# Altium schematic symbol library TarabusLib_KAP.SchLib: 304 symbols (part 2 of 4)
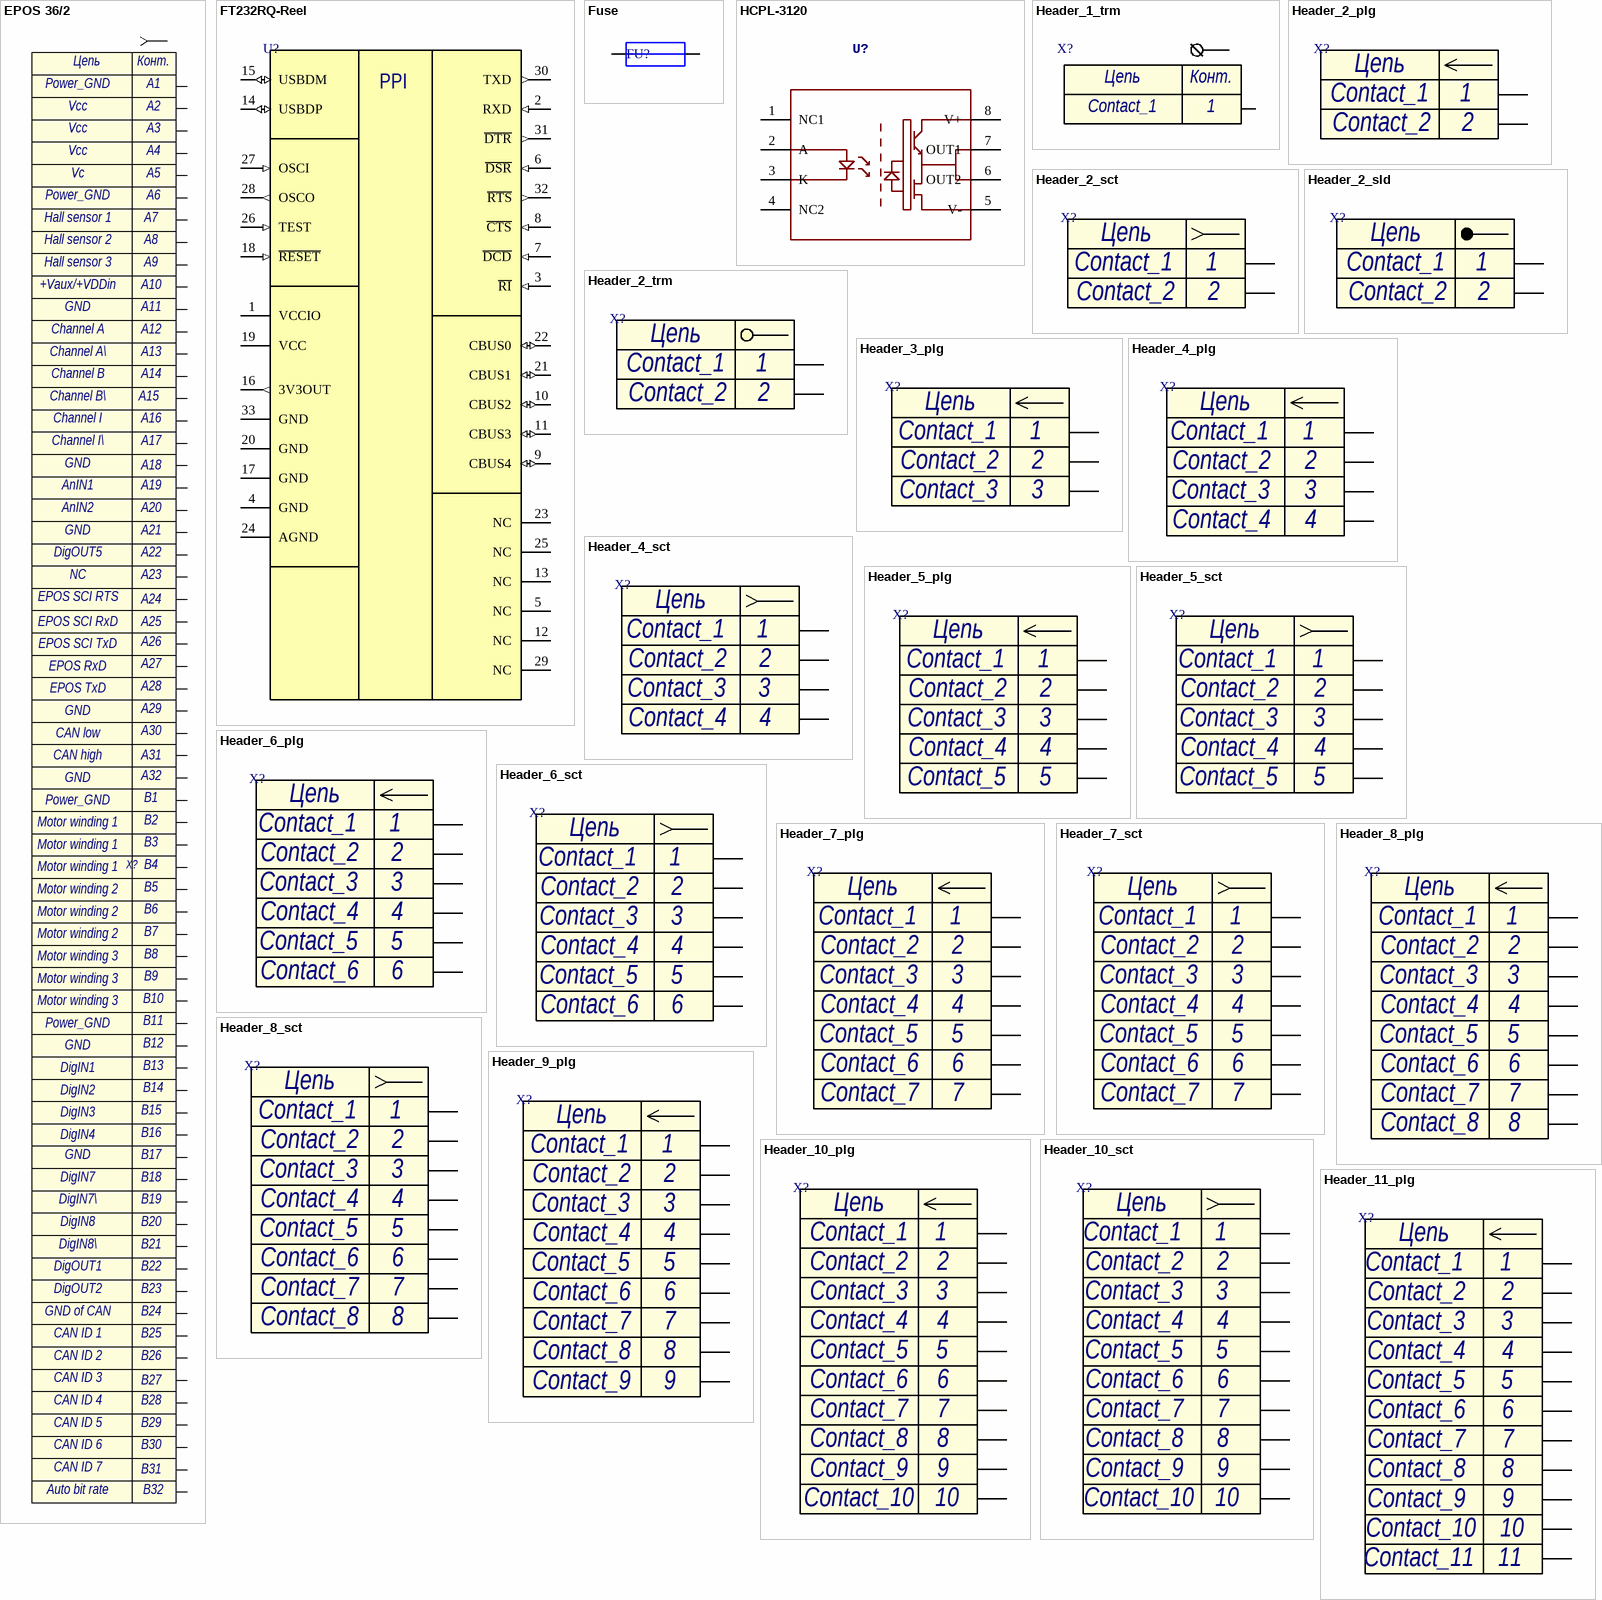
[diagram p40: symbols EPOS 36/2 to Header_11_plg]

## EPOS 36/2
designator X?
PCI 64; Contact_1: Power_GND; Contact_2: Vcc; Contact_36: Motor winding 1; Contact_39: Motor winding 2; Contact_42: Motor winding 3; Contact_49: GND; Contact_50: DigIN7; Contact_51: DigIN7\; Contact_52: DigIN8; Contact_53: DigIN8\; Contact_54: DigOUT1; Contact_55: DigOUT2; Contact_56: GND of CAN; Contact_57: CAN ID 1; Contact_58: CAN ID 2; Contact_59: CAN ID 3; Contact_60: CAN ID 4; Contact_61: CAN ID 5; Contact_62: CAN ID 6; Contact_63: CAN ID 7; Contact_64: Auto bit rate; Contact_45: DigIN1; Contact_46: DigIN2; Contact_47: DigIN3; Contact_48: DigIN4; Contact_30: CAN low; Contact_31: CAN high; Contact_19: AnIN1; Contact_20: AnIN2; Contact_22: DigOUT5; Contact_23: NC; Contact_24: EPOS SCI RTS; Contact_25: EPOS SCI RxD; Contact_26: EPOS SCI TxD; Contact_27: EPOS RxD; Contact_28: EPOS TxD; Contact_17: Channel I\; Contact_10: +Vaux/+VDDin; Contact_12: Channel A; Contact_13: Channel A\; Contact_14: Channel B; Contact_15: Channel B\; Contact_16: Channel I; Contact_5: Vc; Contact_7: Hall sensor 1; Contact_8: Hall sensor 2; Contact_9: Hall sensor 3; Contact_3: Vcc; Contact_35: Motor winding 1; Contact_38: Motor winding 2; Contact_41: Motor winding 3; Contact_43: Power_GND; Contact_44: GND; Contact_32: GND; Contact_33: Power_GND; Contact_34: Motor winding 1; Contact_37: Motor winding 2; Contact_40: Motor winding 3; Contact_29: GND; Contact_18: GND; Contact_21: GND; Contact_11: GND; Contact_6: Power_GND; Contact_4: Vcc
footprint PCI 64
pins: A1 1, A2 2, A3 3, A4 4, A5 5, A6 6, A7 5, A8 5, A9 5, A10 5, A11 5, A12 5, A13 5, A14 5, A15 15, A16 5, A17 5, A18 5, A19 5, A20 5, A21 5, A22 5, A23 5, A24 5, A25 5, A26, A27 5, A28 5, A29 5, A30 5, A31 5, A32 5, B1 5, B2 5, B3 1, B4 2, B5 3, B6 4, B7 5, B8 6, B9 5, B10 5, B11 5, B12 5, B13 5, B14 5, B15 5, B16 5, B17 15, B18 5, B19 5, B20 5, B21 5, B22 5, B23 5, B24 5, B25 5, B26 5, B27 5, B28 A26, B29 5, B30 5, B31 5, B32 5
text: Цепь; Конт.

## FT232RQ-Reel
designator U?
USB UART Asynchronous Serial Data Transfer Chip, QFN-32, Tape and Reel; Published: 19-Aug-2010; DatasheetVersion: ver 2.07, Jul-2010; PackageVersion: 2010; PackageReference: PQFN5X5-32; Publisher: Altium Limited; PackageDescription: 32-Pin Quad Flat No-Lead 0.5 mm Pitch, Pullback, 3.2 x 3.2 mm Exposed Pad; ComponentLink1Description: Manufacturer Link; ComponentLink1URL: http://www.ftdichip.com/Products/ICs/FT232R.htm; ComponentLink2Description: Datasheet; ComponentLink2URL: http://www.ftdichip.com/Support/Documents/DataSheets/ICs/DS_FT232R.pdf
footprint PQFN5X5-32_V (QFN, 32-Leads, Body 5x5mm, Pitch 0.5mm, FTDI Recommended)
footprint PQFN32
pins: 1 VCCIO (power), 2 RXD (in), 3 ~{RI} (in), 4 GND (power), 5 NC, 6 ~{DSR} (in), 7 ~{DCD} (in), 8 ~{CTS} (in), 9 CBUS4 (io), 10 CBUS2 (io), 11 CBUS3 (io), 12 NC, 13 NC, 14 USBDP (io), 15 USBDM (io), 16 3V3OUT (out), 17 GND (power), 18 ~{RESET} (in), 19 VCC (power), 20 GND (power), 21 CBUS1 (io), 22 CBUS0 (io), 23 NC, 24 AGND (power), 25 NC, 26 TEST (in), 27 OSCI (in), 28 OSCO (out), 29 NC, 30 TXD (out), 31 ~{DTR} (out), 32 ~{RTS} (out), 33 GND (power)
text: PPI

## Fuse
designator FU?
Предохранитель; Value: XXX
footprint R0805_A
footprint R0805_H
footprint R0402_H
footprint R0603_A
footprint F4X2.5
footprint F5.1
footprint F10.2
footprint S200
footprint S350
footprint R1812_A
footprint R1210_A
pins: 1, 2

## HCPL-3120
designator U?
footprint 8DIP
pins: 1 NC1, 2 A, 3 K, 4 NC2, 5 V-, 6 OUT2, 7 OUT1, 8 V+

## Header_1_trm
designator X?
Разъем - 1 конт. клемма; Contact_1: Contact_1
footprint 0.25-STANDOFF
pins: 1
text: Цепь; Конт.

## Header_2_plg
designator X?
Разъем - 2 конт. вилка; Contact_1: Contact_1; Contact_2: Contact_2
footprint MOLEX_picoblade_2
footprint MW-2M
footprint MW-2MR
footprint PWL-2R
footprint Terminal_2.54-2
footprint PBS2-2
pins: 1, 2
text: Цепь

## Header_2_sct
designator X?
Разъем - 2 конт. розетка; Contact_1: Contact_1; Contact_2: Contact_2
footprint MOLEX_picoblade_2
footprint MW-2M
footprint MW-2MR
footprint PWL-2R
footprint Terminal_2.54-2
footprint PBS2-2
footprint SMA-JR
footprint Nokia_charge
pins: 1, 2
text: Цепь

## Header_2_sld
designator X?
Разъем - 2 конт. пайка; Contact_1: Contact_1; Contact_2: Contact_2
footprint MOLEX_picoblade_2
footprint MW-2M
footprint MW-2MR
footprint PWL-2R
footprint Terminal_2.54-2
footprint PBS2-2
pins: 1, 2
text: Цепь

## Header_2_trm
designator X?
Разъем - 2 конт. клемма; Contact_1: Contact_1; Contact_2: Contact_2
footprint MOLEX_picoblade_2
footprint MW-2M
footprint MW-2MR
footprint PWL-2R
footprint Terminal_2.54-2
footprint PBS2-2
footprint Head2
footprint MF_2x1_H
footprint Power_Jack
footprint Model Name (Footprint not found)
footprint RS-103
footprint RS-101
pins: 1, 2
text: Цепь

## Header_3_plg
designator X?
Разъем - 3 конт. вилка; Contact_1: Contact_1; Contact_2: Contact_2; Contact_3: Contact_3
footprint PLS2-3
footprint MOLEX_picoblade_3
footprint MOLEX_picoblade_3R
footprint PWL-3R
footprint Terminal_2.54-3
footprint Head3
footprint HEAD3_SOL
pins: 1, 2, 3
text: Цепь

## Header_4_plg
designator X?
Разъем - 4 конт. вилка; Contact_1: Contact_1; Contact_2: Contact_2; Contact_3: Contact_3; Contact_4: Contact_4
footprint MOLEX_picoblade_4
footprint MOLEX_picoblade_4R
footprint MW-4M
footprint MW-4MR
footprint Head4
pins: 1, 2, 3, 4
text: Цепь

## Header_4_sct
designator X?
Разъем - 4 конт. розетка; Contact_1: Contact_1; Contact_2: Contact_2; Contact_3: Contact_3; Contact_4: Contact_4
footprint MOLEX_picoblade_4
footprint MOLEX_picoblade_4R
footprint MW-4MR
footprint MW-4M
footprint Head4
footprint PLS-4
footprint USBB-J1
pins: 1, 2, 3, 4
text: Цепь

## Header_5_plg
designator X?
Разъем - 5 конт. вилка; Contact_1: Contact_1; Contact_2: Contact_2; Contact_3: Contact_3; Contact_4: Contact_4; Contact_5: Contact_5
footprint MOLEX_picoblade_5
footprint MW-5M
footprint MW-5MR
footprint PLS2-5
footprint USB-Mini DIP
footprint USB-Mini
footprint Head5
pins: 1, 2, 3, 4, 5
text: Цепь

## Header_5_sct
designator X?
Разъем - 5 конт. розетка; Contact_1: Contact_1; Contact_2: Contact_2; Contact_3: Contact_3; Contact_4: Contact_4; Contact_5: Contact_5
footprint MOLEX_picoblade_5
footprint MW-5M
footprint MW-5MR
pins: 1, 2, 3, 4, 5
text: Цепь

## Header_6_plg
designator X?
Разъем - 6 конт. вилка; Contact_1: Contact_1; Contact_2: Contact_2; Contact_3: Contact_3; Contact_4: Contact_4; Contact_5: Contact_5; Contact_6: Contact_6
footprint MOLEX_picoblade_6
footprint MW-6M
footprint Head6_sol
pins: 1, 2, 3, 4, 5, 6
text: Цепь

## Header_6_sct
designator X?
Разъем - 6 конт. разъем; Contact_1: Contact_1; Contact_2: Contact_2; Contact_3: Contact_3; Contact_4: Contact_4; Contact_5: Contact_5; Contact_6: Contact_6
footprint MOLEX_picoblade_6
footprint MW-6M
footprint Head6
pins: 1, 2, 3, 4, 5, 6
text: Цепь

## Header_7_plg
designator X?
Разъем - 7 конт. вилка; Contact_1: Contact_1; Contact_2: Contact_2; Contact_3: Contact_3; Contact_4: Contact_4; Contact_5: Contact_5; Contact_6: Contact_6; Contact_7: Contact_7
footprint MOLEX_picoblade_7
pins: 1, 2, 3, 4, 5, 6, 7
text: Цепь

## Header_7_sct
designator X?
Разъем - 7 конт. вилка; Contact_1: Contact_1; Contact_2: Contact_2; Contact_3: Contact_3; Contact_4: Contact_4; Contact_5: Contact_5; Contact_6: Contact_6; Contact_7: Contact_7
footprint MOLEX_picoblade_7
pins: 1, 2, 3, 4, 5, 6, 7
text: Цепь

## Header_8_plg
designator X?
Разъем - 8 конт. вилка; Contact_1: Contact_1; Contact_2: Contact_2; Contact_3: Contact_3; Contact_4: Contact_4; Contact_5: Contact_5; Contact_6: Contact_6; Contact_7: Contact_7; Contact_8: Contact_8
footprint MOLEX_picoblade_8
pins: 1, 2, 3, 4, 5, 6, 7, 8
text: Цепь

## Header_8_sct
designator X?
Разъем - 8 конт. розетка; Contact_1: Contact_1; Contact_2: Contact_2; Contact_3: Contact_3; Contact_4: Contact_4; Contact_5: Contact_5; Contact_6: Contact_6; Contact_7: Contact_7; Contact_8: Contact_8
footprint MOLEX_picoblade_8
pins: 1, 2, 3, 4, 5, 6, 7, 8
text: Цепь

## Header_9_plg
designator X?
Разъем - 9 конт. вилка; Contact_1: Contact_1; Contact_2: Contact_2; Contact_3: Contact_3; Contact_4: Contact_4; Contact_5: Contact_5; Contact_6: Contact_6; Contact_7: Contact_7; Contact_8: Contact_8; Contact_9: Contact_9
pins: 1, 2, 3, 4, 5, 6, 7, 8, 9
text: Цепь

## Header_10_plg
designator X?
Разъем - 10 конт. вилка; Contact_1: Contact_1; Contact_2: Contact_2; Contact_3: Contact_3; Contact_4: Contact_4; Contact_5: Contact_5; Contact_6: Contact_6; Contact_7: Contact_7; Contact_8: Contact_8; Contact_9: Contact_9; Contact_10: Contact_10
footprint PLLD1.27-10S (PLDD-1.27)
pins: 1, 2, 3, 4, 5, 6, 7, 8, 9, 10
text: Цепь

## Header_10_sct
designator X?
Разъем - 10 конт. розетка; Contact_1: Contact_1; Contact_2: Contact_2; Contact_3: Contact_3; Contact_4: Contact_4; Contact_5: Contact_5; Contact_6: Contact_6; Contact_7: Contact_7; Contact_8: Contact_8; Contact_9: Contact_9; Contact_10: Contact_10
footprint MOLEX_52207-1085
footprint PBS2-10
footprint PBS2-10S
pins: 1, 2, 3, 4, 5, 6, 7, 8, 9, 10
text: Цепь

## Header_11_plg
designator X?
Разъем - 11 конт. вилка; Contact_1: Contact_1; Contact_2: Contact_2; Contact_3: Contact_3; Contact_4: Contact_4; Contact_5: Contact_5; Contact_6: Contact_6; Contact_7: Contact_7; Contact_8: Contact_8; Contact_9: Contact_9; Contact_10: Contact_10; Contact_11: Contact_11
pins: 1, 2, 3, 4, 5, 6, 7, 8, 9, 10, 11
text: Цепь

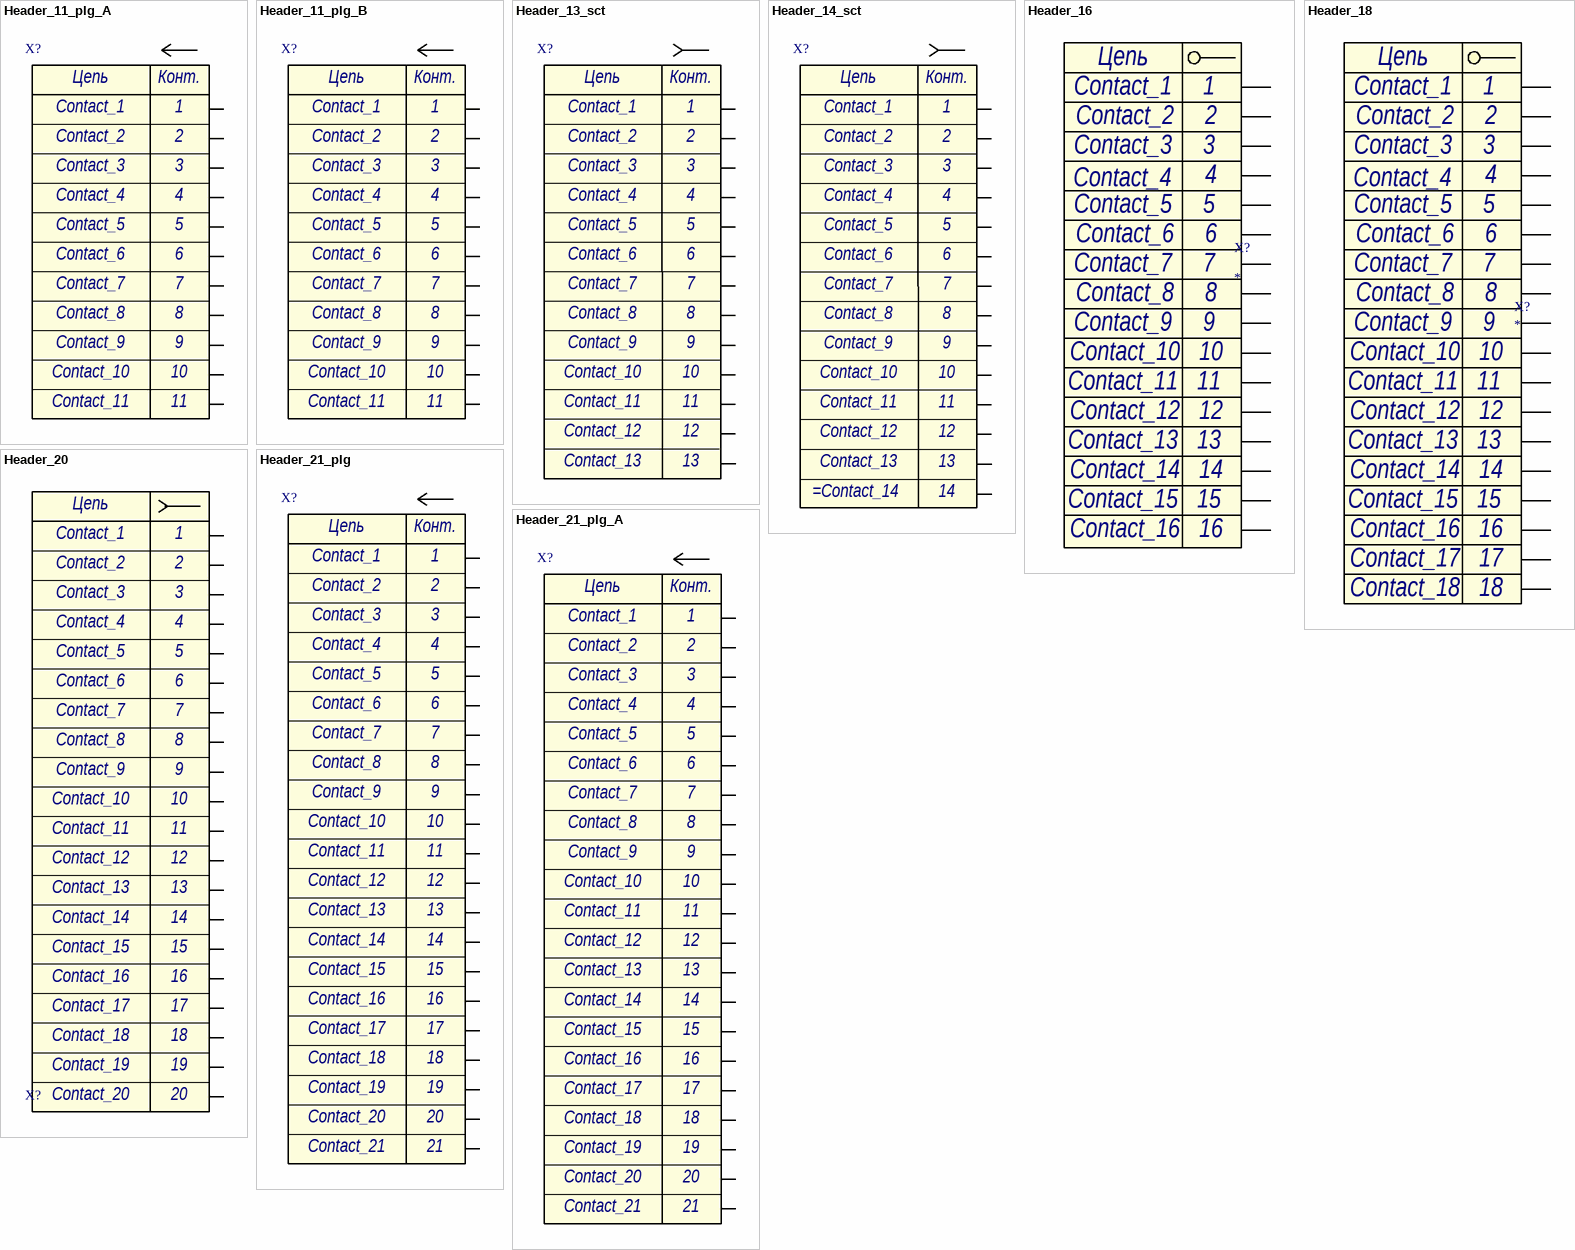
[diagram p8: symbols Header_11_plg_A to Header_21_plg_A]

## Header_11_plg_A
designator X?
Разъем - 11 конт. вилка; Contact_1: Contact_1; Contact_2: Contact_2; Contact_3: Contact_3; Contact_4: Contact_4; Contact_5: Contact_5; Contact_6: Contact_6; Contact_7: Contact_7; Contact_8: Contact_8; Contact_9: Contact_9; Contact_10: Contact_10; Contact_11: Contact_11
pins: A1 1, A2 2, A3 3, A4 4, A5 5, A6 6, A7 7, A8 8, A9 9, A10 10, A11 11
text: Цепь; Конт.

## Header_11_plg_B
designator X?
Разъем - 11 конт. вилка; Contact_1: Contact_1; Contact_2: Contact_2; Contact_3: Contact_3; Contact_4: Contact_4; Contact_5: Contact_5; Contact_6: Contact_6; Contact_7: Contact_7; Contact_8: Contact_8; Contact_9: Contact_9; Contact_10: Contact_10; Contact_11: Contact_11
pins: B1 1, B2 2, B3 3, B4 4, B5 5, B6 6, B7 7, B8 8, B9 9, B10 10, B11 11
text: Цепь; Конт.

## Header_13_sct
designator X?
Разъем - 13 конт. розетка; Contact_1: Contact_1; Contact_2: Contact_2; Contact_3: Contact_3; Contact_4: Contact_4; Contact_5: Contact_5; Contact_6: Contact_6; Contact_7: Contact_7; Contact_8: Contact_8; Contact_9: Contact_9; Contact_10: Contact_10; Contact_11: Contact_11; Contact_12: Contact_12; Contact_13: Contact_13
footprint PBS2-12
footprint PBS2-12S
pins: 1, 2, 3, 4, 5, 6, 7, 8, 9, 10, 11, 12, 13
text: Цепь; Конт.

## Header_14_sct
designator X?
Разъем - 13 конт. розетка; Contact_1: Contact_1; Contact_2: Contact_2; Contact_3: Contact_3; Contact_4: Contact_4; Contact_5: Contact_5; Contact_6: Contact_6; Contact_7: Contact_7; Contact_8: Contact_8; Contact_9: Contact_9; Contact_10: Contact_10; Contact_11: Contact_11; Contact_12: Contact_12; Contact_13: Contact_13
footprint PBS2-12
footprint PBS2-12S
footprint MOLEX 52207-1460 (FFC/FCP Connector)
footprint MOLEX_PICOBLADE_14
footprint Head14
pins: 1, 2, 3, 4, 5, 6, 7, 8, 9, 10, 11, 12, 13, 14
text: Цепь; Конт.

## Header_16
designator X?
Разъём - 16 конт. клемма; Contact_8: Contact_8; Contact_5: Contact_5; Contact_4: Contact_4; Contact_3: Contact_3; Contact_7: Contact_7; Contact_6: Contact_6; Contact_1: Contact_1; Contact_9: Contact_9; Contact_2: Contact_2; Contact_10: Contact_10; Contact_11: Contact_11; Contact_12: Contact_12; Contact_13: Contact_13; Contact_14: Contact_14; Contact_15: Contact_15; Contact_16: Contact_16
pins: 1, 2, 3, 4, 5, 6, 7, 8, 9, 10, 11, 12, 13, 14, 15, 16
text: Цепь

## Header_18
designator X?
Разъём 18 конт. клемма; Contact_1: Contact_1; Contact_2: Contact_2; Contact_14: Contact_14; Contact_10: Contact_10; Contact_3: Contact_3; Contact_6: Contact_6; Contact_9: Contact_9; Contact_4: Contact_4; Contact_13: Contact_13; Contact_5: Contact_5; Contact_7: Contact_7; Contact_11: Contact_11; Contact_12: Contact_12; Contact_8: Contact_8; Contact_15: Contact_15; Contact_16: Contact_16; Contact_17: Contact_17; Contact_18: Contact_18
pins: 1, 2, 3, 4, 5, 6, 7, 8, 9, 10, 11, 12, 13, 14, 15, 16, 17, 18
text: Цепь

## Header_20
designator X?
Разъем - 20 конт. мамка; Contact_1: Contact_1; Contact_2: Contact_2; Contact_3: Contact_3; Contact_4: Contact_4; Contact_5: Contact_5; Contact_6: Contact_6; Contact_7: Contact_7; Contact_8: Contact_8; Contact_9: Contact_9; Contact_10: Contact_10; Contact_11: Contact_11; Contact_12: Contact_12; Contact_13: Contact_13; Contact_14: Contact_14; Contact_15: Contact_15; Contact_16: Contact_16; Contact_17: Contact_17; Contact_18: Contact_18; Contact_19: Contact_19; Contact_20: Contact_20
footprint M50-430 Socket 2x10
footprint M50-490 Socket 2x10
pins: 1, 2, 3, 4, 5, 6, 7, 8, 9, 10, 11, 12, 13, 14, 15, 16, 17, 18, 19, 20
text: Цепь

## Header_21_plg
designator X?
Разъем - 21 конт. вилка; Contact_1: Contact_1; Contact_2: Contact_2; Contact_3: Contact_3; Contact_4: Contact_4; Contact_5: Contact_5; Contact_6: Contact_6; Contact_7: Contact_7; Contact_8: Contact_8; Contact_9: Contact_9; Contact_10: Contact_10; Contact_11: Contact_11; Contact_12: Contact_12; Contact_13: Contact_13; Contact_14: Contact_14; Contact_15: Contact_15; Contact_16: Contact_16; Contact_17: Contact_17; Contact_18: Contact_18; Contact_19: Contact_19; Contact_20: Contact_20; Contact_21: Contact_21
footprint PCI_21
pins: 1, 2, 3, 4, 5, 6, 7, 8, 9, 10, 11, 12, 13, 14, 15, 16, 17, 18, 19, 20, 21
text: Цепь; Конт.

## Header_21_plg_A
designator X?
Разъем - 21 конт. вилка; Contact_1: Contact_1; Contact_2: Contact_2; Contact_3: Contact_3; Contact_4: Contact_4; Contact_5: Contact_5; Contact_6: Contact_6; Contact_7: Contact_7; Contact_8: Contact_8; Contact_9: Contact_9; Contact_10: Contact_10; Contact_11: Contact_11; Contact_12: Contact_12; Contact_13: Contact_13; Contact_14: Contact_14; Contact_15: Contact_15; Contact_16: Contact_16; Contact_17: Contact_17; Contact_18: Contact_18; Contact_19: Contact_19; Contact_20: Contact_20; Contact_21: Contact_21
footprint PCI_21
pins: A1 1, A2 2, A3 3, A4 4, A5 5, A6 6, A7 7, A8 8, A9 9, A10 10, A11 11, A12 12, A13 13, A14 14, A15 15, A16 16, A17 17, A18 18, A19 19, A20 20, A21 21
text: Цепь; Конт.

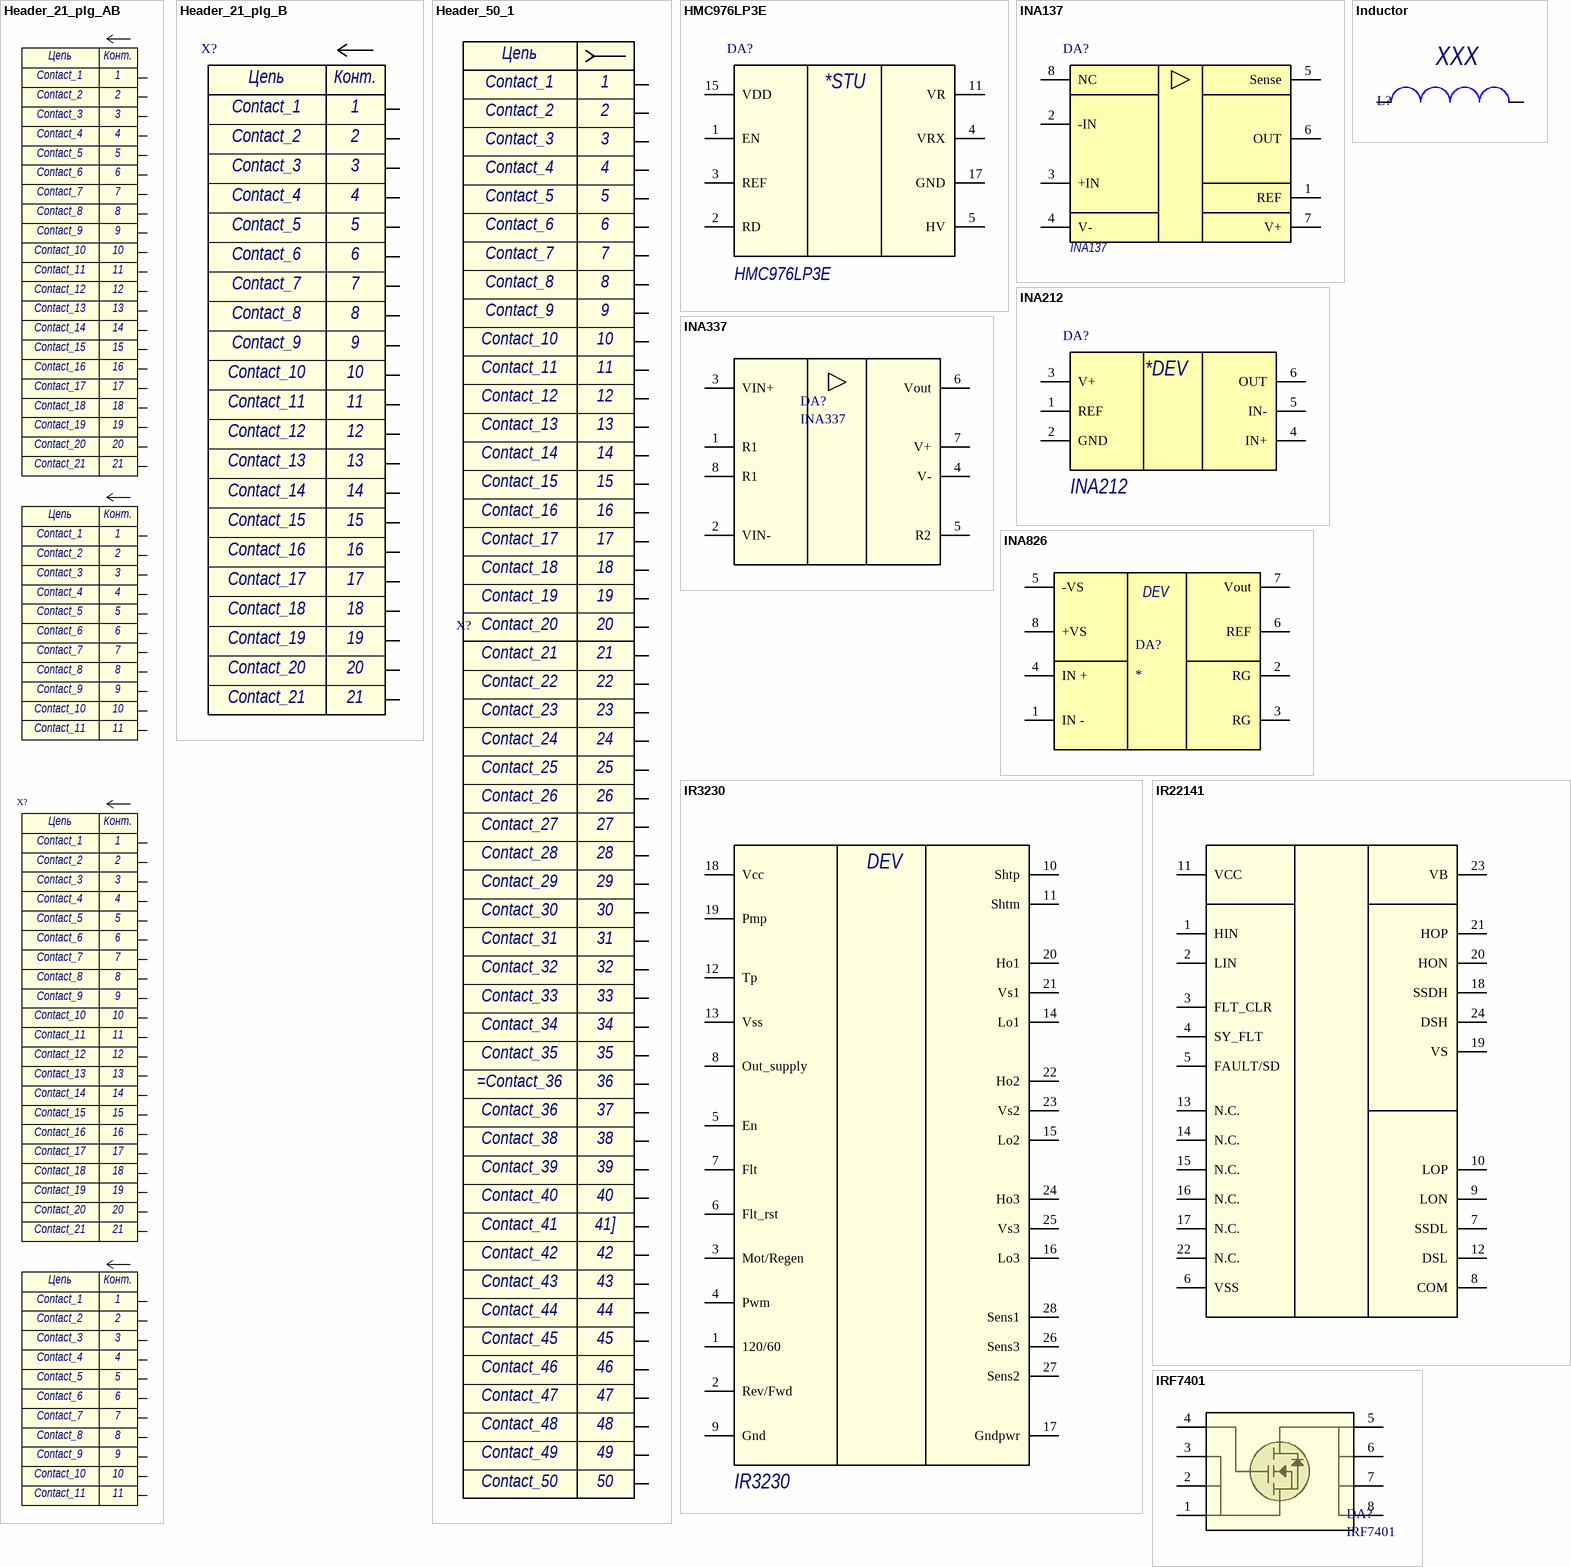
[diagram p9: symbols Header_21_plg_AB to IRF7401]

## Header_21_plg_AB
designator X?
Разъем - 21 конт. вилка; Contact_1: Contact_1; Contact_2: Contact_2; Contact_3: Contact_3; Contact_4: Contact_4; Contact_5: Contact_5; Contact_6: Contact_6; Contact_7: Contact_7; Contact_8: Contact_8; Contact_9: Contact_9; Contact_10: Contact_10; Contact_11: Contact_11; Contact_12: Contact_12; Contact_13: Contact_13; Contact_14: Contact_14; Contact_15: Contact_15; Contact_16: Contact_16; Contact_17: Contact_17; Contact_18: Contact_18; Contact_19: Contact_19; Contact_20: Contact_20; Contact_21: Contact_21
footprint PCI_32
pins: A1 1, A2 2, A3 3, A4 4, A5 5, A6 6, A7 7, A8 8, A9 9, A10 10, A11 11, A12 12, A13 13, A14 14, A15 15, A16 16, A17 17, A18 18, A19 19, A20 20, A21 21, A22 1, A23 2, A24 3, A25 4, A26 5, A27 6, A28 7, A29 8, A30 9, A31 10, A32 11, B1 1, B2 2, B3 3, B4 4, B5 5, B6 6, B7 7, B8 8, B9 9, B10 10, B11 11, B12 12, B13 13, B14 14, B15 15, B16 16, B17 17, B18 18, B19 19, B20 20, B21 21, B22 1, B23 2, B24 3, B25 4, B26 5, B27 6, B28 7, B29 8, B30 9, B31 10, B32 11
text: Цепь; Конт.

## Header_21_plg_B
designator X?
Разъем - 21 конт. вилка; Contact_1: Contact_1; Contact_2: Contact_2; Contact_3: Contact_3; Contact_4: Contact_4; Contact_5: Contact_5; Contact_6: Contact_6; Contact_7: Contact_7; Contact_8: Contact_8; Contact_9: Contact_9; Contact_10: Contact_10; Contact_11: Contact_11; Contact_12: Contact_12; Contact_13: Contact_13; Contact_14: Contact_14; Contact_15: Contact_15; Contact_16: Contact_16; Contact_17: Contact_17; Contact_18: Contact_18; Contact_19: Contact_19; Contact_20: Contact_20; Contact_21: Contact_21
footprint PCI_21
pins: B1 1, B2 2, B3 3, B4 4, B5 5, B6 6, B7 7, B8 8, B9 9, B10 10, B11 11, B12 12, B13 13, B14 14, B15 15, B16 16, B17 17, B18 18, B19 19, B20 20, B21 21
text: Цепь; Конт.

## Header_50_1
designator X?
Разъем -50 конт. мамка; Contact_37: Contact_36; Contact_1: Contact_1; Contact_2: Contact_2; Contact_3: Contact_3; Contact_4: Contact_4; Contact_5: Contact_5; Contact_6: Contact_6; Contact_7: Contact_7; Contact_8: Contact_8; Contact_9: Contact_9; Contact_10: Contact_10; Contact_11: Contact_11; Contact_12: Contact_12; Contact_13: Contact_13; Contact_14: Contact_14; Contact_15: Contact_15; Contact_16: Contact_16; Contact_17: Contact_17; Contact_18: Contact_18; Contact_19: Contact_19; Contact_20: Contact_20; Contact_21: Contact_21; Contact_22: Contact_22; Contact_23: Contact_23; Contact_24: Contact_24; Contact_25: Contact_25; Contact_26: Contact_26; Contact_27: Contact_27; Contact_28: Contact_28; Contact_29: Contact_29; Contact_30: Contact_30; Contact_31: Contact_31; Contact_32: Contact_32; Contact_33: Contact_33; Contact_34: Contact_34; Contact_35: Contact_35; Contact_38: Contact_38; Contact_39: Contact_39; Contact_40: Contact_40; Contact_41: Contact_41; Contact_42: Contact_42; Contact_43: Contact_43; Contact_44: Contact_44; Contact_45: Contact_45; Contact_46: Contact_46; Contact_47: Contact_47; Contact_48: Contact_48; Contact_49: Contact_49; Contact_50: Contact_50
footprint M50-430 Socket 2x10
footprint M50-490 Socket 2x10
pins: 1, 2, 3, 4, 5, 6, 7, 8, 9, 10, 11, 12, 13, 14, 15, 16, 17, 18, 19, 20, 21, 22, 23, 24, 25, 26, 27, 28, 29, 30, 31, 32, 33, 34, 35, 36, 37, 38, 39, 40, 41, 42, 43, 44, 45, 46, 47, 48, 49, 50
text: Цепь; 41]

## HMC976LP3E
designator DA?
400mA Low-NOISE Linear Regulator; Name: HMC976LP3E
footprint PQFN32
footprint VQFN32
pins: 1 EN, 2 RD, 3 REF, 4 VRX, 5 HV, 11 VR, 15 VDD, 17 GND
text: *STU

## INA137
designator DA?
audio receiver; Name: INA137
footprint SO8_H
footprint SO8_A
pins: 1 REF, 2 -IN, 3 +IN, 4 V-, 5 Sense, 6 OUT, 7 V+, 8 NC

## INA212
designator DA?
Zero-Drift Series, Current-Shunt Monitor; Name: INA212
footprint SOT23-6_A
footprint SOT23-6_H
pins: 1 REF, 2 GND, 3 V+, 4 IN+, 5 IN-, 6 OUT
text: *DEV

## INA337
designator DA?
Инструментальный усилитель; Name: INA337
footprint MSOP-8LD
pins: 1 R1, 2 VIN-, 3 VIN+, 4 V-, 5 R2, 6 Vout, 7 V+, 8 R1

## INA826
designator DA?
footprint MSOP-8LD
pins: 1 IN - , 2 RG, 3 RG, 4 IN + , 5 -VS, 6 REF, 7 Vout, 8 +VS
text: DEV

## Inductor
designator L?, comment XXX
Катушка индуктивности; Value: XXX
footprint L0603_A
footprint L0603_H
footprint CDRH4D28C_A
footprint CDRH4D28C_H
footprint SRU1048_A
footprint SRU1048_H
footprint RCR-875D
footprint CDRH3D16
footprint L0402_A
footprint CDRH2D18/HP
footprint L0805_A
footprint L1210_A
footprint XFL4020
footprint SDRH124
pins: 1, 2

## IR3230
designator DD?
Three-phase brushless DC motor   controller/driver with many integrated features; Name: IR3230
footprint TI-RGZ48-4100X4100TP_N (QFN, 48-Leads, Body 7x7mm, Pitch 0.5mm, Thermal Pad 4.1x4.1mm, IPC Medium Density)
pins: 1 120/60, 2 Rev/Fwd, 3 Mot/Regen, 4 Pwm, 5 En, 6 Flt_rst, 7 Flt, 8 Out_supply, 9 Gnd, 10 Shtp, 11 Shtm, 12 Tp, 13 Vss, 14 Lo1, 15 Lo2, 16 Lo3, 17 Gndpwr, 18 Vcc, 19 Pmp, 20 Ho1, 21 Vs1, 22 Ho2, 23 Vs2, 24 Ho3, 25 Vs3, 26 Sens3, 27 Sens2, 28 Sens1
text: DEV

## IR22141
designator DD?, comment IR22141SSPBF
Gate Driver; Manufacturer: International Rectifier; PackageDescription: 24 Pin Plastic Flat Pack; Mounting Technology: Surface Mount; PartNumber: IR22141SSPBF
footprint SSOP24
pins: 1 HIN (power) "Enable for buck3. Float to enable. Can use this pin to adjust the input under-voltage lockout of buck3 with a resistor 1 EN3 divider", 2 LIN (power) "An open drain output, asserts low if output voltage of any buck beyond regulation range due to thermal shutdown,  over-current, under-voltage or ENx shut down.", 3 FLT_CLR (power) "Open drain power failure output signal.", 4 SY_FLT (power) "When high, an automatic power-up/power-down sequence is provided according to states of EN1, EN2 and EN3  pins.", 5 FAULT/SD (power) "Internal LDO for gate driver and internal controller. Connect a 1µF capacitor from the pin to power ground", 6 VSS (power) "Feedback Kelvin sensing pin for buck2 output voltage. Connect this pin to buck2 resistor divider.", 7 SSDL (power) "Error amplifier output and Loop compensation pin for buck2. Connect a series resistor and capacitor to compensate the control loop of buck2 with peak current PWM mode.", 8 COM (power) "Soft-start and tracking input for buck2. An internal 5µA pull-up current source is connected to this pin. The soft-start  time can be programmed by connecting a capacitor between this pin and ground.", 9 LON (power) "Boot strapped supply to the high side floating gate driver in buck2. Connect a capacitor (recommend 47nF) from  BST2 pin to LX2 pin.", 10 LOP (power) "Switching node connection to the inductor and bootstrap capacitor for buck2. The voltage swing at this pin is from a", 11 VCC (power) "10 LX2 diode voltage below the ground up to PVIN2 voltage.", 12 DSL (power), 13 N.C. (power), 14 N.C. (power), 15 N.C. (power), 16 N.C. (power), 17 N.C. (power), 18 SSDH (power), 19 VS (power), 20 HON (power), 21 HOP (power), 22 N.C. (power), 23 VB (power), 24 DSH (power)

## IRF7401
designator DA?
HEXFET Power MOSFET
footprint SO8_H
pins: 1, 2, 3, 4, 5, 6, 7, 8

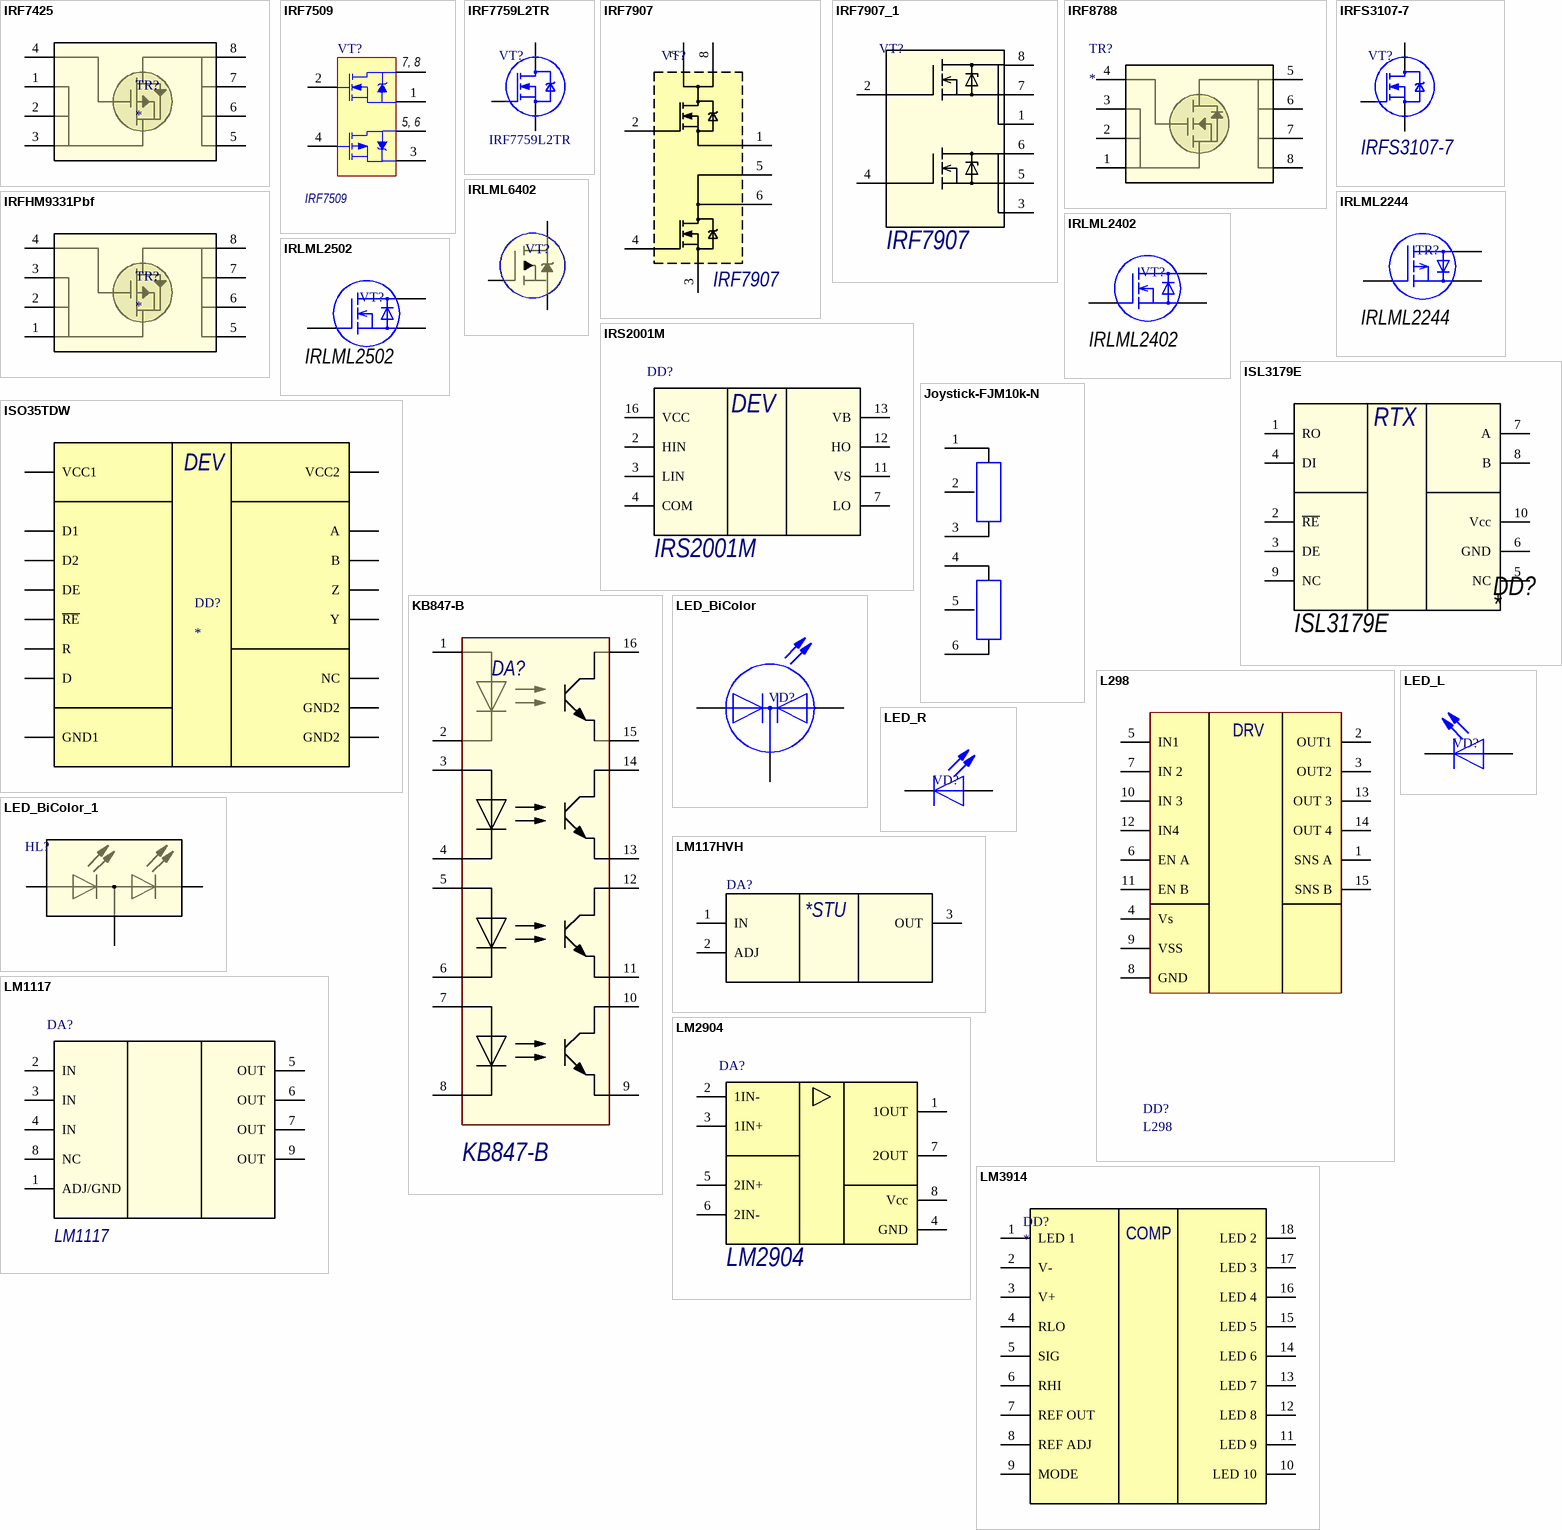
[diagram p10: symbols IRF7425 to LM3914]

## IRF7425
designator TR?
footprint SO8_A
footprint SO8_H
pins: 1 G, 2 S, 3 D, 4, 5, 6, 7, 8

## IRF7509
designator VT?
HEXFET Power MOSFET; Name: IRF7509
footprint Micro8_H
footprint Micro8_A
pins: 1 S1, 2 G1, 3 S2, 4 G2, 5 D2, 6 D2, 7 D1, 8 D1
text: 7, 8; 5, 6

## IRF7759L2TR
designator VT?
Power MOSFET; Name: IRF7759L2TR
footprint DirectFET_LS
footprint PSON_8_TI
pins: D, G, S

## IRF7907
designator VT?
2 x N-MOSFET; Name: IRF7907
footprint SO8_A
footprint SO8_H
pins: 1, 2, 3, 4, 5, 6, 7, 8

## IRF7907_1
designator VT?, comment IRF7907
2 x N-MOSFET; Name: IRF7907
footprint SO8_A
footprint SO8_H
pins: 1, 2, 3, 4, 5, 6, 7, 8

## IRF8788
designator TR?
footprint SO8_A
footprint SO8_H
pins: 1, 2, 3, 4, 5, 6, 7, 8

## IRFHM9331Pbf
designator TR?
footprint SO8_A
footprint SO8_H
pins: 1 S, 2 S, 3 S, 4 G, 5, 6, 7, 8

## IRFS3107-7
designator VT?
HEXFET Power MOSFETs Discrete N-Channel; Name: IRFS3107-7
footprint D2PAK-7
pins: D, G, S

## IRLML2244
designator TR?
MOSFET; Manufacturer Part Number: IRLML2244TRPBF; Manufacturer: International Rectifier; FET Type: MOSFET P-Channel, Metal Oxide; FET Feature: Logic Level Gate; Drain to Source Voltage (Vdss): 20V; Vgs(th) (Max) @ Id: 1.1V @ 10µA; Input Capacitance (Ciss) @ Vds: 570pF @ 16V; Power - Max: 1.3W; Rds On (Max) @ Id, Vgs: 54 mOhm @ 4.3A, 4.5V; Gate Charge (Qg) @ Vgs: 6.9nC @ 4.5V; Current - Continuous Drain (Id) @ 25°C: 4.3A (Ta); Supplier 1: Digi-Key; Supplier Part Number 1: IRLML2244TRPBFCT-ND; Category: Discrete Semiconductor Products; Packaging: Cut Tape (CT); RoHS: RoHS Compliant; Supplier: Digi-Key; Package / Case: TO-236-3, SC-59, SOT-23-3; Mounting Type: Surface Mount; Supplier Device Package: SOT-23; Supplier Part Number: IRLML2244TRPBFCT-ND; Name: IRLML2244
footprint SOT23-3_A
footprint SOT23-3_H
pins: 1 G, 2 S, 3 D

## IRLML2402
designator VT?
MOSFET; Manufacturer: International Rectifier; Manufacturer Part Number: IRLML2402GTRPBF; FET Type: MOSFET N-Channel, Metal Oxide; FET Feature: Logic Level Gate; Drain to Source Voltage (Vdss): 20V; Current - Continuous Drain (Id) @ 25°C: 1.2A (Ta); Rds On (Max) @ Id, Vgs: 250 mOhm @ 930mA, 4.5V; Vgs(th) (Max) @ Id: 700mV @ 250µA; Gate Charge (Qg) @ Vgs: 3.9nC @ 4.5V; Input Capacitance (Ciss) @ Vds: 110pF @ 15V; Power - Max: 540mW; Supplier 1: Digi-Key; Supplier Part Number 1: IRLML2402GTRPBFTR-ND; Category: Discrete Semiconductor Products; Packaging: Tape & Reel (TR); Supplier: Digi-Key; RoHS: RoHS Compliant; Mounting Type: Surface Mount; Package / Case: TO-236-3, SC-59, SOT-23-3; Supplier Device Package: Micro3™/SOT-23; Supplier Part Number: IRLML2402GTRPBFTR-ND; Name: IRLML2402
footprint SOT23-3_H
footprint SOT23-3_A
pins: 1 G, 2 S, 3 D

## IRLML2502
designator VT?
MOSFET; Manufacturer Part Number: IRLML2502GTRPBF; Manufacturer: INTERNATIONAL RECTIFIER; Rds(on) Test Voltage Vgs: 4.5; No. of Pins: 3; On Resistance Rds(on): 35; Drain Source Voltage Vds: 20; Transistor Polarity: N Channel; Continuous Drain Current Id: 4.2; Supplier 1: Newark; RoHS: YES; Supplier: Newark; Supplier Part Number 1: 10R3517; Supplier Part Number: 10R3517; Name: IRLML2502
footprint SOT23-3_H
footprint SOT23-3_A
pins: 1 G, 2 S, 3 D

## IRLML6402
designator VT?  (value not drawn)
MOSFET; Type: P-MOSFET; Current: 1.2A; Vds: 20; Name: IRLML6402
footprint SOT23-3_H
footprint SOT23-3_A
pins: 1 G, 2 S, 3 D

## IRS2001M
designator DD?
HI-LO side driver; Name: IRS2001M
footprint MLPQ4x4
pins: 2 HIN, 3 LIN, 4 COM, 7 LO, 11 VS, 12 HO, 13 VB, 16 VCC
text: DEV

## ISL3179E
designator DD?  Name: ISL3179E
Приемопередатчик RS485
footprint DFN-10LD (10 LEAD DUAL FLAT PACKAGE)
pins: 1 RO, 2 ~{RE}, 3 DE, 4 DI, 5 NC, 6 GND, 7 A, 8 B, 9 NC, 10 Vcc
text: RTX

## ISO35TDW
designator DD?
Цифровой изолятор
footprint DW016_M (16-Pin Plastic Small Outline Integrated Circuit 1.27 mm Pitch, IPC Low Density)
pins: 1 D1, 2 D2, 3 GND1, 4 VCC1, 5 R, 6 ~{RE}, 7 DE, 8 D, 9 GND2, 10 NC, 11 Y, 12 Z, 13 B, 14 A, 15 GND2, 16 VCC2
text: DEV

## Joystick-FJM10k-N
designator R?, comment Joustick
20 MHz MSP430 SoC with RF Core with 32 KB Flash, 4096 B SRAM and 30 GPIOs, -40 to 85 degC, 48-pin QFN (RGZ), Green (RoHS & no Sb/Br); Name: Joustick
footprint Joystick_FJM10K-N
pins: 1, 2, 3, 4, 5, 6

## KB847-B
designator DA?
Value: Value; Name: KB847-B
footprint OPTO-16
pins: 1, 2, 3, 4, 5, 6, 7, 8, 9, 10, 11, 12, 13, 14, 15, 16

## L298
designator DD?
4A Motor Driver; Name: L298
footprint MULTIWATT15 (TO, Thru-Hole, Vertical, Heatsink Mounted; 15 Bent Staggered Leads; Pitch 1.27 mm)
pins: 1 SNS A, 2 OUT1, 3 OUT2, 4 Vs, 5 IN1, 6 EN A, 7 IN 2, 8 GND, 9 VSS, 10 IN 3, 11 EN B, 12 IN4, 13 OUT 3, 14 OUT 4, 15 SNS B
text: DRV

## LED_BiColor
designator VD?
Светодиод
footprint LED-3
pins: 1 K, 2 A, 3 A

## LED_BiColor_1
designator HL?
Светодиод
footprint LED-3
pins: 1 K, 2 A, 3 A

## LED_L
designator VD?
Светодиод
footprint D0603_A
footprint D0603_H
pins: 1 K, 2 A

## LED_R
designator VD?
Светодиод
footprint D0603_A
footprint D0603_H
pins: 1 K, 2 A

## LM117HVH
designator DA?
3-Terminal Adjustable Regulator, 3-pin TO-39; PartNumber: LM117HVH; Manufacturer: National Semiconductor; PackageTopMarking: NSZXYTTE# LM117HVHP+; PowerWise: N; CompType: LDO IC; High-Reliability: Y; DatasheetVersion: Apr-2000; PackageVersion: revD, Feb-1995; PackageReference: H03A; PackageDescription: Metal Can, TO-39, 3 Lead, .200in Dia, P.C.; RoHS: N; PinCount: 3; Code_JEDEC: TO-39; ComponentLink1Description: Manufacturer URL; ComponentLink1URL: http://www.national.com/; ComponentLink2Description: LM117HV Datasheet; ComponentLink2URL: http://www.national.com/ds/LM/LM117HV.pdf; ComponentLink3Description: LM117HV Web Page; ComponentLink3URL: http://www.national.com/pf/LM/LM117HV.html; ComponentLink4Description: H03A Package Page; ComponentLink4URL: http://www.national.com/packaging/folders/h03a.html
footprint TO-39 (Can; 3 Leads; Pin Circle Dia. 5.08 mm; Lead Dia. 0.48 mm (max))
pins: 1 IN (power), 2 ADJ (power), 3 OUT (power)
text: *STU

## LM1117
designator DA?
800mA Low-Dropout Linear Regulator; Name: LM1117
footprint LDC08A (PSON, 8-Leads, Body 4x4mm, Pitch 0.8mm, NSC Recommended)
pins: 1 ADJ/GND, 2 IN, 3 IN, 4 IN, 5 OUT, 6 OUT, 7 OUT, 8 NC, 9 OUT

## LM2904
designator DA?
ОУ; Name: LM2904
footprint SO8_H
footprint SO8_A
pins: 1 1OUT, 2 1IN-, 3 1IN+, 4 GND, 5 2IN+, 6 2IN-, 7 2OUT, 8 Vcc

## LM3914
designator DD?
Драйвер светодиодной инликатороной полосы
pins: 1 LED 1, 2 V-, 3 V+, 4 RLO, 5 SIG, 6 RHI, 7 REF OUT, 8 REF ADJ, 9 MODE, 10 LED 10, 11 LED 9, 12 LED 8, 13 LED 7, 14 LED 6, 15 LED 5, 16 LED 4, 17 LED 3, 18 LED 2
text: COMP

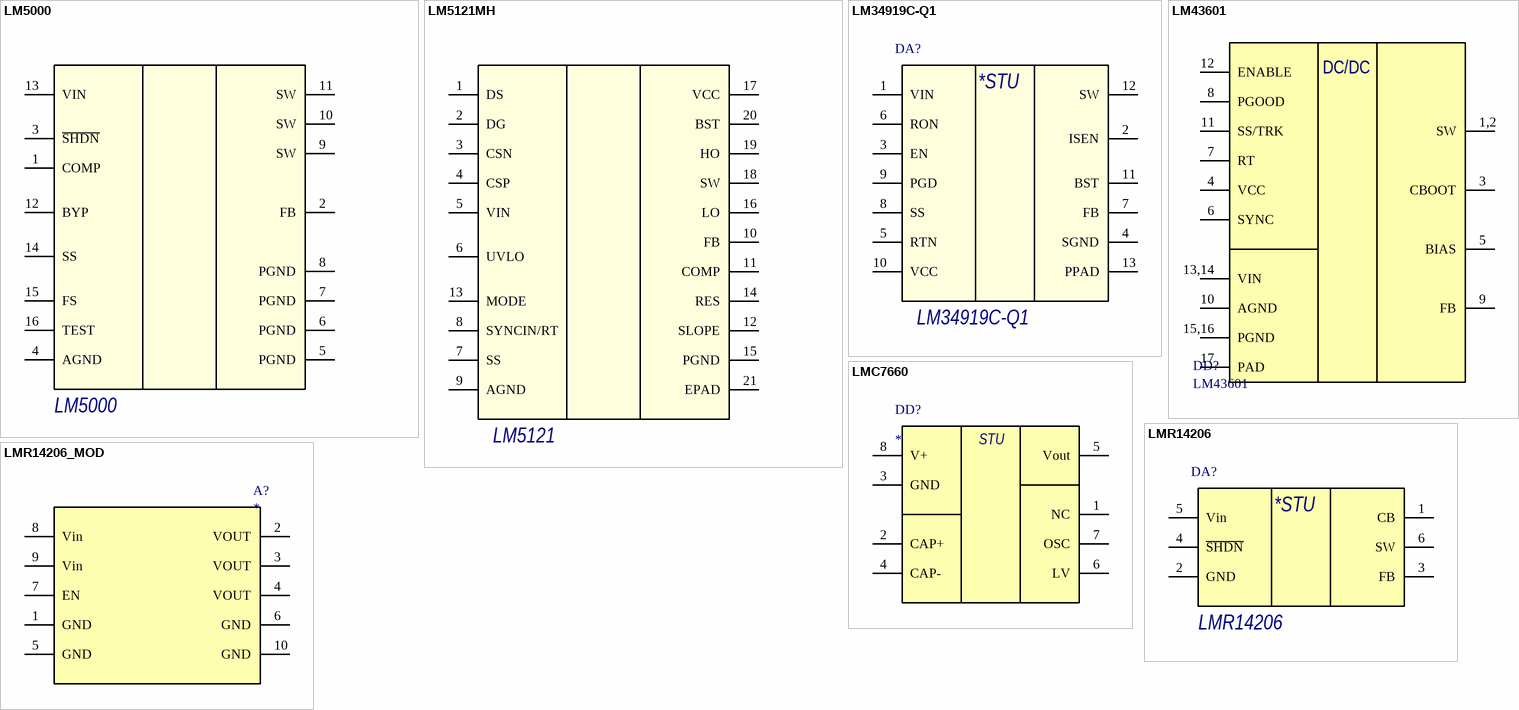
[diagram p11: symbols LM5000 to LMR14206_MOD]

## LM5000
designator DD?
High Voltage Switch Mode Regulator; Value: Value; Name: LM5000
footprint TSSOP16
pins: 1 COMP (power) "Enable for buck3. Float to enable. Can use this pin to adjust the input under-voltage lockout of buck3 with a resistor 1 EN3 divider", 2 FB (power) "An open drain output, asserts low if output voltage of any buck beyond regulation range due to thermal shutdown,  over-current, under-voltage or ENx shut down.", 3 ~{SHDN} (power) "Open drain power failure output signal.", 4 AGND (power) "When high, an automatic power-up/power-down sequence is provided according to states of EN1, EN2 and EN3  pins.", 5 PGND (power) "Internal LDO for gate driver and internal controller. Connect a 1µF capacitor from the pin to power ground", 6 PGND (power) "Feedback Kelvin sensing pin for buck2 output voltage. Connect this pin to buck2 resistor divider.", 7 PGND (power) "Error amplifier output and Loop compensation pin for buck2. Connect a series resistor and capacitor to compensate the control loop of buck2 with peak current PWM mode.", 8 PGND (power) "Soft-start and tracking input for buck2. An internal 5µA pull-up current source is connected to this pin. The soft-start  time can be programmed by connecting a capacitor between this pin and ground.", 9 SW (power) "Boot strapped supply to the high side floating gate driver in buck2. Connect a capacitor (recommend 47nF) from  BST2 pin to LX2 pin.", 10 SW (power) "Switching node connection to the inductor and bootstrap capacitor for buck2. The voltage swing at this pin is from a", 11 SW (power) "10 LX2 diode voltage below the ground up to PVIN2 voltage.", 12 BYP (power), 13 VIN (power), 14 SS (power), 15 FS (power), 16 TEST (power)

## LM5121MH
designator DD?, comment LM5121
Automotive Grade, 3-65V Wide Vin, Current Mode Synchronous Boost with Disconnection Switch Control; Name: LM5121
footprint HTSSOP20
pins: 1 DS (power) "Enable for buck3. Float to enable. Can use this pin to adjust the input under-voltage lockout of buck3 with a resistor 1 EN3 divider", 2 DG (power) "An open drain output, asserts low if output voltage of any buck beyond regulation range due to thermal shutdown,  over-current, under-voltage or ENx shut down.", 3 CSN (power) "Open drain power failure output signal.", 4 CSP (power) "When high, an automatic power-up/power-down sequence is provided according to states of EN1, EN2 and EN3  pins.", 5 VIN (power) "Internal LDO for gate driver and internal controller. Connect a 1µF capacitor from the pin to power ground", 6 UVLO (power) "Feedback Kelvin sensing pin for buck2 output voltage. Connect this pin to buck2 resistor divider.", 7 SS (power) "Error amplifier output and Loop compensation pin for buck2. Connect a series resistor and capacitor to compensate the control loop of buck2 with peak current PWM mode.", 8 SYNCIN/RT (power) "Soft-start and tracking input for buck2. An internal 5µA pull-up current source is connected to this pin. The soft-start  time can be programmed by connecting a capacitor between this pin and ground.", 9 AGND (power) "Boot strapped supply to the high side floating gate driver in buck2. Connect a capacitor (recommend 47nF) from  BST2 pin to LX2 pin.", 10 FB (power) "Switching node connection to the inductor and bootstrap capacitor for buck2. The voltage swing at this pin is from a", 11 COMP (power) "10 LX2 diode voltage below the ground up to PVIN2 voltage.", 12 SLOPE (power), 13 MODE (power), 14 RES (power), 15 PGND (power), 16 LO (power), 17 VCC (power), 18 SW (power), 19 HO (power), 20 BST (power), 21 EPAD (power)

## LM34919C-Q1
designator DA?
DC\DC; Name: LM34919C-Q1
footprint WSON12 (PSON, 14-Leads, Body 4x4mm, Pitch 0.5mm, NSC Recommended)
pins: 1 VIN, 2 ISEN, 3 EN, 4 SGND, 5 RTN, 6 RON , 7 FB, 8 SS, 9 PGD, 10 VCC, 11 BST, 12 SW, 13 PPAD
text: *STU

## LM43601
designator DD?
Step-Down DC/DC Converter 3.5V to 36V 1A; Name: LM43601
footprint HTSSOP-16 (Shrink Small Outline; 16 Leads; Body Width 4.4 mm; Pitch 0.65 mm)
pins: 1,2 SW, 3 CBOOT, 4 VCC, 5 BIAS, 6 SYNC, 7 RT, 8 PGOOD, 9 FB, 10 AGND, 11 SS/TRK, 12 ENABLE, 13,14 VIN, 15,16 PGND, 17 PAD
text: DC/DC

## LMC7660
designator DD?
footprint SO8_A
pins: 1 NC, 2 CAP+, 3 GND, 4 CAP-, 5 Vout, 6 LV, 7 OSC, 8 V+
text: STU

## LMR14206
designator DA?
DC\DC; Name: LMR14206
footprint SOT23-6_A
footprint SOT23-6_H
pins: 1 CB, 2 GND, 3 FB, 4 ~{SHDN}, 5 Vin, 6 SW
text: *STU

## LMR14206_MOD
designator A?
DC/DC
footprint LMR14206_MOD
pins: 1 GND, 2 VOUT, 3 VOUT, 4 VOUT, 5 GND, 6 GND, 7 EN, 8 Vin, 9 Vin, 10 GND

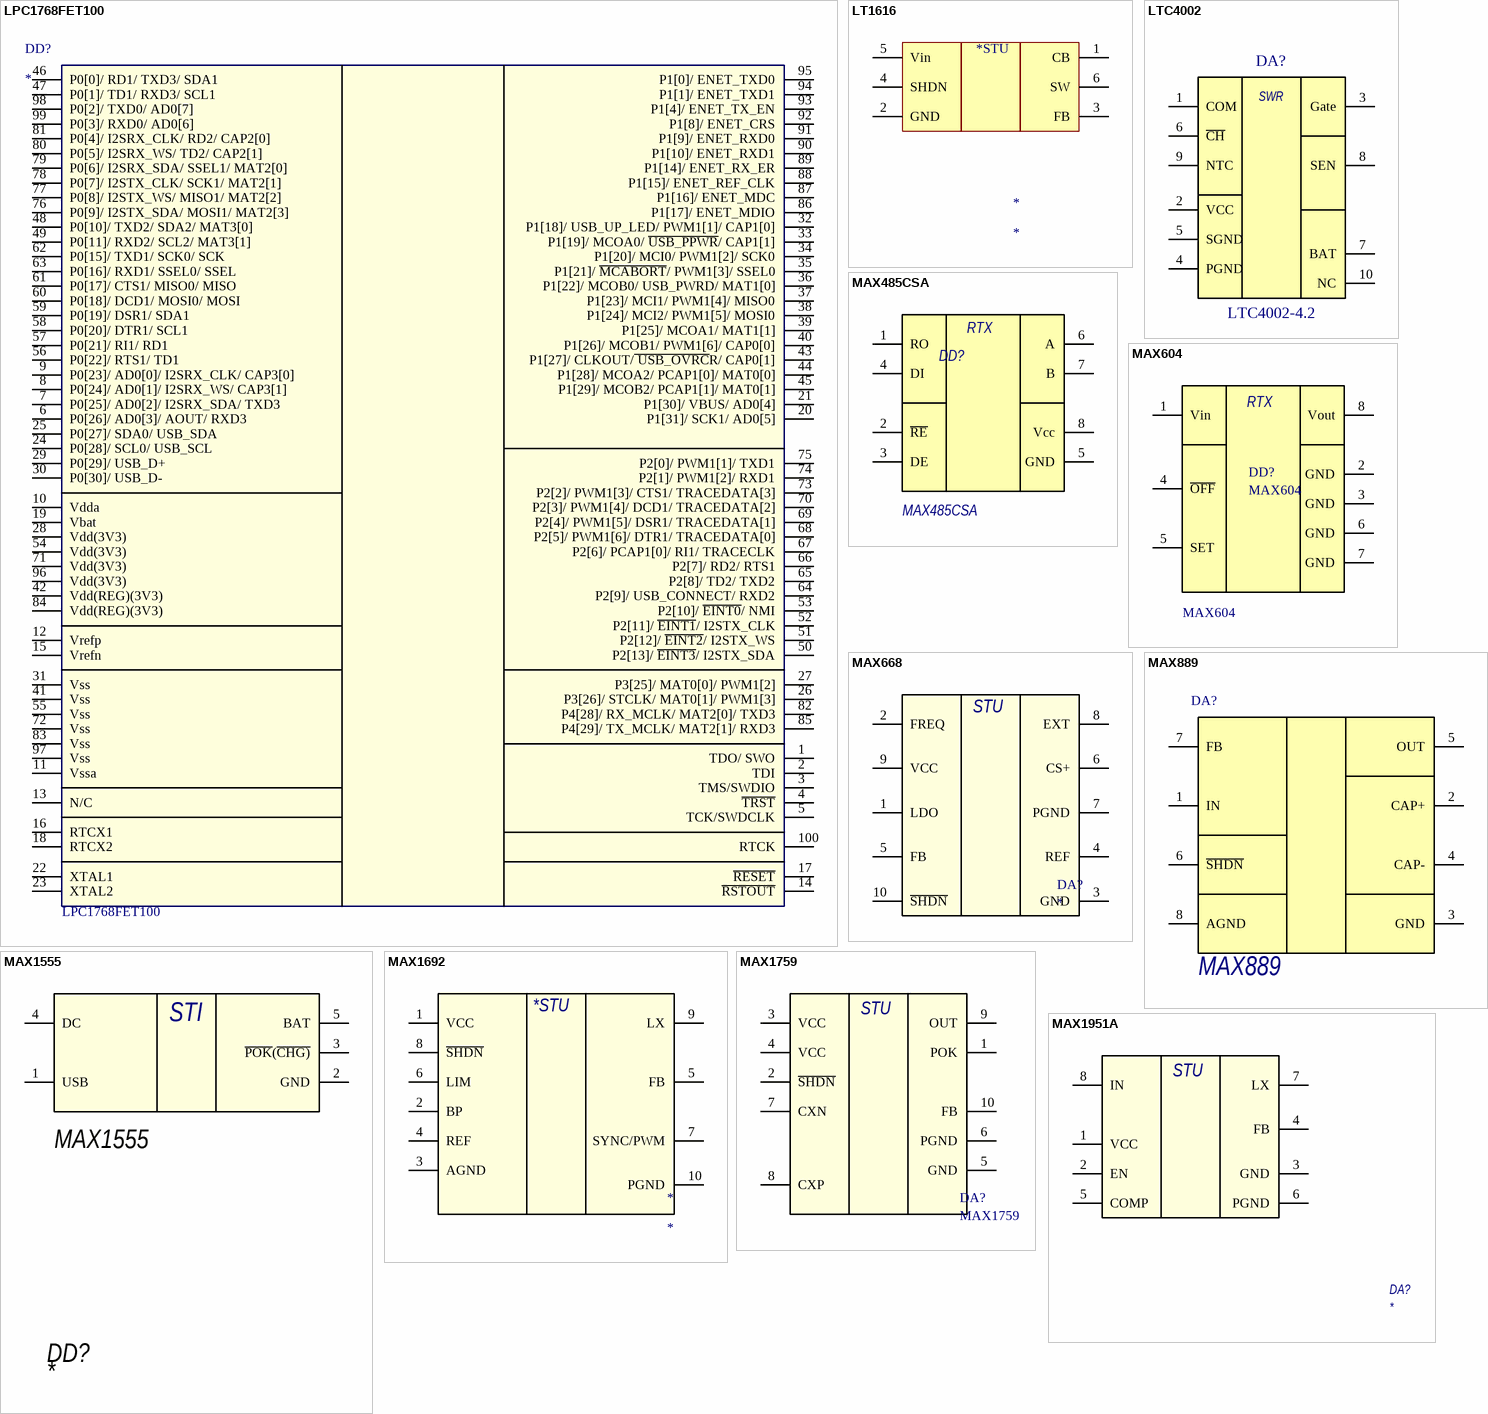
[diagram p12: symbols LPC1768FET100 to MAX1951A]

## LPC1768FET100
designator DD?  Name: LPC1768FET100
footprint SOT407-1_L (Thin QFP, 100-Leads, Body 14x14mm, Pitch 0.5mm, IPC High Density)
footprint SOT407-1_M (Thin QFP, 100-Leads, Body 14x14mm, Pitch 0.5mm, IPC Low Density)
footprint SOT407-1_N (Thin QFP, 100-Leads, Body 14x14mm, Pitch 0.5mm, IPC Medium Density)
pins: 1 TDO/ SWO, 2 TDI, 3 TMS/SWDIO, 4 ~{TRST}, 5 TCK/SWDCLK, 6 P0[26]/ AD0[3]/ AOUT/ RXD3, 7 P0[25]/ AD0[2]/ I2SRX_SDA/ TXD3, 8 P0[24]/ AD0[1]/ I2SRX_WS/ CAP3[1], 9 P0[23]/ AD0[0]/ I2SRX_CLK/ CAP3[0], 10 Vdda, 11 Vssa, 12 Vrefp, 13 N/C, 14 ~{RSTOUT}, 15 Vrefn, 16 RTCX1, 17 ~{RESET}, 18 RTCX2, 19 Vbat, 20 P1[31]/ SCK1/ AD0[5], 21 P1[30]/ VBUS/ AD0[4], 22 XTAL1, 23 XTAL2, 24 P0[28]/ SCL0/ USB_SCL, 25 P0[27]/ SDA0/ USB_SDA, 26 P3[26]/ STCLK/ MAT0[1]/ PWM1[3], 27 P3[25]/ MAT0[0]/ PWM1[2], 28 Vdd(3V3), 29 P0[29]/ USB_D+, 30 P0[30]/ USB_D-, 31 Vss, 32 P1[18]/ USB_UP_LED/ PWM1[1]/ CAP1[0], 33 P1[19]/ MCOA0/ ~{USB_PPWR}/ CAP1[1], 34 P1[20]/ MCI0/ PWM1[2]/ SCK0, 35 P1[21]/ ~{MCABORT}/ PWM1[3]/ SSEL0, 36 P1[22]/ MCOB0/ USB_PWRD/ MAT1[0], 37 P1[23]/ MCI1/ PWM1[4]/ MISO0, 38 P1[24]/ MCI2/ PWM1[5]/ MOSI0, 39 P1[25]/ MCOA1/ MAT1[1], 40 P1[26]/ MCOB1/ PWM1[6]/ CAP0[0], 41 Vss, 42 Vdd(REG)(3V3), 43 P1[27]/ CLKOUT/~{ USB_OVRC}R/ CAP0[1], 44 P1[28]/ MCOA2/ PCAP1[0]/ MAT0[0], 45 P1[29]/ MCOB2/ PCAP1[1]/ MAT0[1], 46 P0[0]/ RD1/ TXD3/ SDA1, 47 P0[1]/ TD1/ RXD3/ SCL1, 48 P0[10]/ TXD2/ SDA2/ MAT3[0], 49 P0[11]/ RXD2/ SCL2/ MAT3[1], 50 P2[13]/ ~{EINT3}/ I2STX_SDA, 51 P2[12]/ ~{EINT2}/ I2STX_WS, 52 P2[11]/ ~{EINT1}/ I2STX_CLK, 53 P2[10]/ ~{EINT0}/ NMI, 54 Vdd(3V3), 55 Vss, 56 P0[22]/ RTS1/ TD1, 57 P0[21]/ RI1/ RD1, 58 P0[20]/ DTR1/ SCL1, 59 P0[19]/ DSR1/ SDA1, 60 P0[18]/ DCD1/ MOSI0/ MOSI, 61 P0[17]/ CTS1/ MISO0/ MISO, 62 P0[15]/ TXD1/ SCK0/ SCK, 63 P0[16]/ RXD1/ SSEL0/ SSEL, 64 P2[9]/ USB_CONNECT/ RXD2, 65 P2[8]/ TD2/ TXD2, 66 P2[7]/ RD2/ RTS1, 67 P2[6]/ PCAP1[0]/ RI1/ TRACECLK, 68 P2[5]/ PWM1[6]/ DTR1/ TRACEDATA[0], 69 P2[4]/ PWM1[5]/ DSR1/ TRACEDATA[1], 70 P2[3]/ PWM1[4]/ DCD1/ TRACEDATA[2], 71 Vdd(3V3), 72 Vss, 73 P2[2]/ PWM1[3]/ CTS1/ TRACEDATA[3], 74 P2[1]/ PWM1[2]/ RXD1, 75 P2[0]/ PWM1[1]/ TXD1, 76 P0[9]/ I2STX_SDA/ MOSI1/ MAT2[3], 77 P0[8]/ I2STX_WS/ MISO1/ MAT2[2], 78 P0[7]/ I2STX_CLK/ SCK1/ MAT2[1], 79 P0[6]/ I2SRX_SDA/ SSEL1/ MAT2[0], 80 P0[5]/ I2SRX_WS/ TD2/ CAP2[1], 81 P0[4]/ I2SRX_CLK/ RD2/ CAP2[0], 82 P4[28]/ RX_MCLK/ MAT2[0]/ TXD3, 83 Vss, 84 Vdd(REG)(3V3), 85 P4[29]/ TX_MCLK/ MAT2[1]/ RXD3, 86 P1[17]/ ENET_MDIO, 87 P1[16]/ ENET_MDC, 88 P1[15]/ ENET_REF_CLK, 89 P1[14]/ ENET_RX_ER, 90 P1[10]/ ENET_RXD1, 91 P1[9]/ ENET_RXD0, 92 P1[8]/ ENET_CRS, 93 P1[4]/ ENET_TX_EN, 94 P1[1]/ ENET_TXD1, 95 P1[0]/ ENET_TXD0, 96 Vdd(3V3), 97 Vss, 98 P0[2]/ TXD0/ AD0[7], 99 P0[3]/ RXD0/ AD0[6], 100 RTCK

## LT1616
designator *
footprint SOT23-6_H
pins: 1 CB, 2 GND, 3 FB, 4 SHDN, 5 Vin, 6 SW
text: *STU

## LTC4002
designator DA?, comment LTC4002-4.2
1-cell LI-PO charger; Name: LTC4002-4.2
footprint DFN10_H
footprint DFN10_A
pins: 1 COM, 2 VCC, 3 Gate, 4 PGND, 5 SGND, 6 ~{CH}, 7 BAT, 8 SEN, 9 NTC, 10 NC
text: SWR

## MAX485CSA
designator DD?
Преобразователь RX-TX в RS485; Name: MAX485CSA
footprint SOT23-8_H
pins: 1 RO, 2 ~{RE}, 3 DE, 4 DI, 5 GND, 6 A, 7 B, 8 Vcc
text: RTX

## MAX604
designator DD?
Линейный регулятор; Name: MAX604
pins: 1 Vin, 2 GND, 3 GND, 4 ~{OFF}, 5 SET, 6 GND, 7 GND, 8 Vout
text: RTX

## MAX668
designator DA?
Step-up DC/DC
footprint uSOP-10_H
pins: 1 LDO, 2 FREQ, 3 GND, 4 REF, 5 FB, 6 CS+, 7 PGND, 8 EXT, 9 VCC, 10 ~{SHDN}
text: STU

## MAX889
designator DA?
инвертор; Name: MAX889
footprint SO8_H
footprint SO8_A
pins: 1 IN, 2 CAP+, 3 GND, 4 CAP-, 5 OUT, 6 ~{SHDN}, 7 FB, 8 AGND

## MAX1555
designator DD?  Name: MAX1555
Микросхема заряда аккумулятора
footprint SOT23-5_A
footprint SOT23-5_H
pins: 1 USB, 2 GND, 3 ~{POK}(~{CHG)}, 4 DC, 5 BAT
text: STI

## MAX1692
designator *
footprint uSOP-10_H
pins: 1 VCC, 2 BP, 3 AGND, 4 REF, 5 FB, 6 LIM, 7 SYNC/PWM, 8 ~{SHDN}, 9 LX, 10 PGND
text: *STU

## MAX1759
designator DA?
Buck/Boost regulator
footprint uSOP-10_H
pins: 1 POK, 2 ~{SHDN}, 3 VCC, 4 VCC, 5 GND, 6 PGND, 7 CXN, 8 CXP, 9 OUT, 10 FB
text: STU

## MAX1951A
designator DA?
footprint SO8_H
pins: 1 VCC, 2 EN, 3 GND, 4 FB, 5 COMP, 6 PGND, 7 LX, 8 IN
text: STU

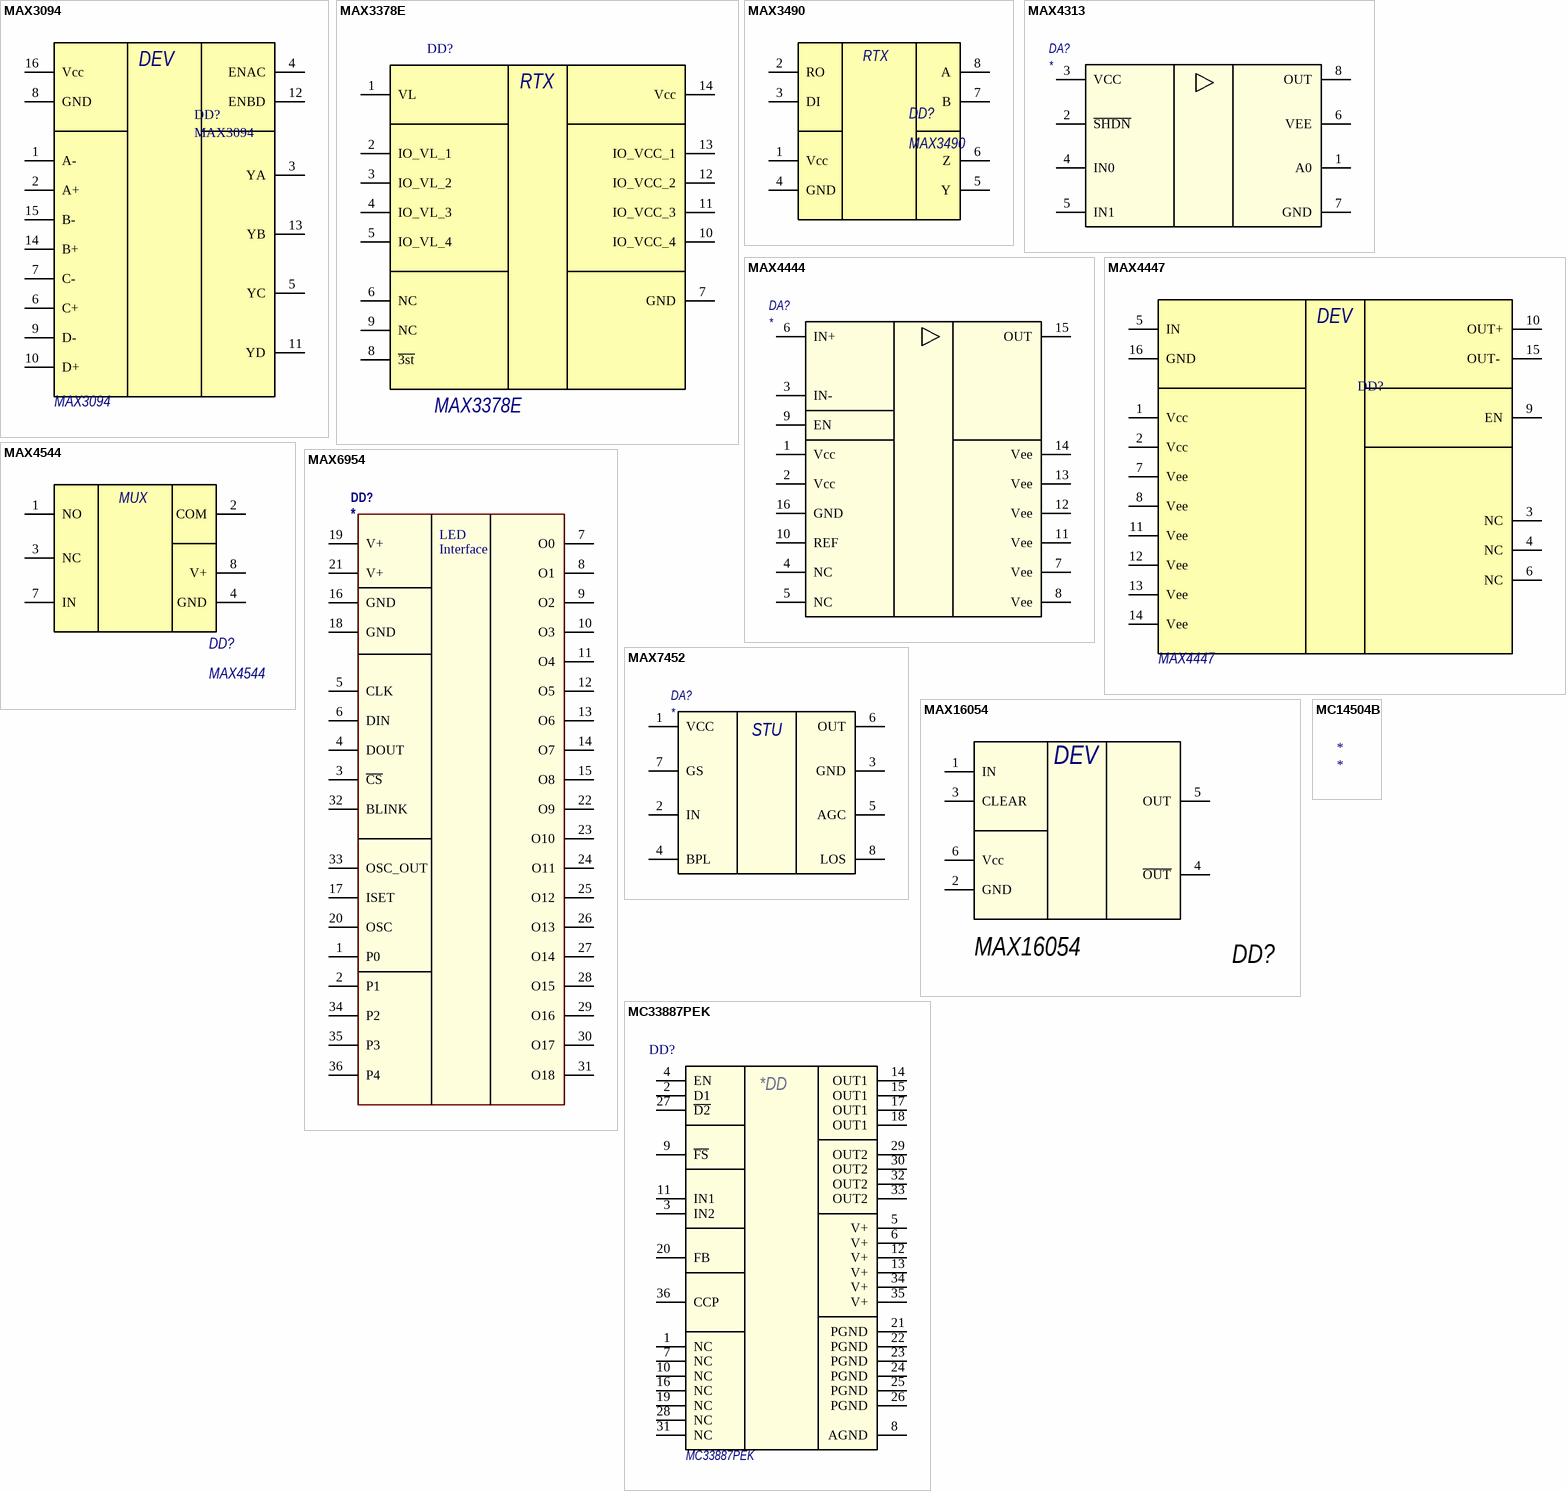
[diagram p13: symbols MAX3094 to MC33887PEK]

## MAX3094
designator DD?
приемник LVDS; Name: MAX3094
footprint TSSOP-16
pins: 1 A-, 2 A+, 3 YA, 4 ENAC, 5 YC, 6 C+, 7 C-, 8 GND, 9 D-, 10 D+, 11 YD, 12 ENBD, 13 YB, 14 B+, 15 B-, 16 Vcc
text: DEV

## MAX3378E
designator DD?
Преобразователь уровней; Name: MAX3378E
footprint TSSOP14_A
footprint TSSOP14_H
pins: 1 VL, 2 IO_VL_1, 3 IO_VL_2, 4 IO_VL_3, 5 IO_VL_4, 6 NC, 7 GND, 8 ~{3st}, 9 NC, 10 IO_VCC_4, 11 IO_VCC_3, 12 IO_VCC_2, 13 IO_VCC_1, 14 Vcc
text: RTX

## MAX3490
designator DD?
Преобразователь интерфесов RS-422/RS-485; Name: MAX3490
footprint SO8_A
pins: 1 Vcc, 2 RO, 3 DI, 4 GND, 5 Y, 6 Z, 7 B, 8 A
text: RTX

## MAX4313
designator DA?
Name: *
footprint SO8_H
pins: 1 A0, 2 ~{SHDN}, 3 VCC, 4 IN0, 5 IN1, 6 VEE, 7 GND, 8 OUT

## MAX4444
designator DA?
Name: *
footprint SO8_H
pins: 1 Vcc, 2 Vcc, 3 IN-, 4 NC, 5 NC, 6 IN+, 7 Vee, 8 Vee, 9 EN, 10 REF, 11 Vee, 12 Vee, 13 Vee, 14 Vee, 15 OUT, 16 GND

## MAX4447
designator DD?  (value not drawn)
Name: MAX4447
footprint SO-16
pins: 1 Vcc, 2 Vcc, 3 NC, 4 NC, 5 IN, 6 NC, 7 Vee, 8 Vee, 9 EN, 10 OUT+, 11 Vee, 12 Vee, 13 Vee, 14 Vee, 15 OUT- , 16 GND
text: DEV

## MAX4544
designator DD?
Аналоговый коммутатор; Name: MAX4544
footprint SO8_A
footprint SO8_H
pins: 1 NO, 2 COM, 3 NC, 4 GND, 7 IN, 8 V+
text: MUX

## MAX6954
designator DD?
LED Display Driver with I/O Expander and Key Scan
pins: 1 P0, 2 P1, 3 ~{CS}, 4 DOUT, 5 CLK, 6 DIN, 7 O0, 8 O1, 9 O2, 10 O3, 11 O4, 12 O5, 13 O6, 14 O7, 15 O8, 16 GND, 17 ISET, 18 GND, 19 V+, 20 OSC, 21 V+, 22 O9, 23 O10, 24 O11, 25 O12, 26 O13, 27 O14, 28 O15, 29 O16, 30 O17, 31 O18, 32 BLINK, 33 OSC_OUT, 34 P2, 35 P3, 36 P4
text: LED; Interface

## MAX7452
designator DA?
footprint SO8_H
pins: 1 VCC, 2 IN, 3 GND, 4 BPL, 5 AGC, 6 OUT, 7 GS, 8 LOS
text: STU

## MAX16054
designator DD?  Name: MAX16054  (hidden comment: *)
ON/OFF Controller
footprint SOT23-6_A
footprint SOT23-6_H
pins: 1 IN, 2 GND, 3 CLEAR, 4 ~{OUT}, 5 OUT, 6 Vcc
text: DEV

## MC14504B
designator *

## MC33887PEK
designator DD?
Силовой мост; Name: MC33887PEK
footprint PQFN36
pins: 1 NC, 2 D1, 3 IN2, 4 EN, 5 V+, 6 V+, 7 NC, 8 AGND, 9 ~{FS}, 10 NC, 11 IN1, 12 V+, 13 V+, 14 OUT1, 15 OUT1, 16 NC, 17 OUT1, 18 OUT1, 19 NC, 20 FB, 21 PGND, 22 PGND, 23 PGND, 24 PGND, 25 PGND, 26 PGND, 27 ~{D2}, 28 NC, 29 OUT2, 30 OUT2, 31 NC, 32 OUT2, 33 OUT2, 34 V+, 35 V+, 36 CCP
text: *DD

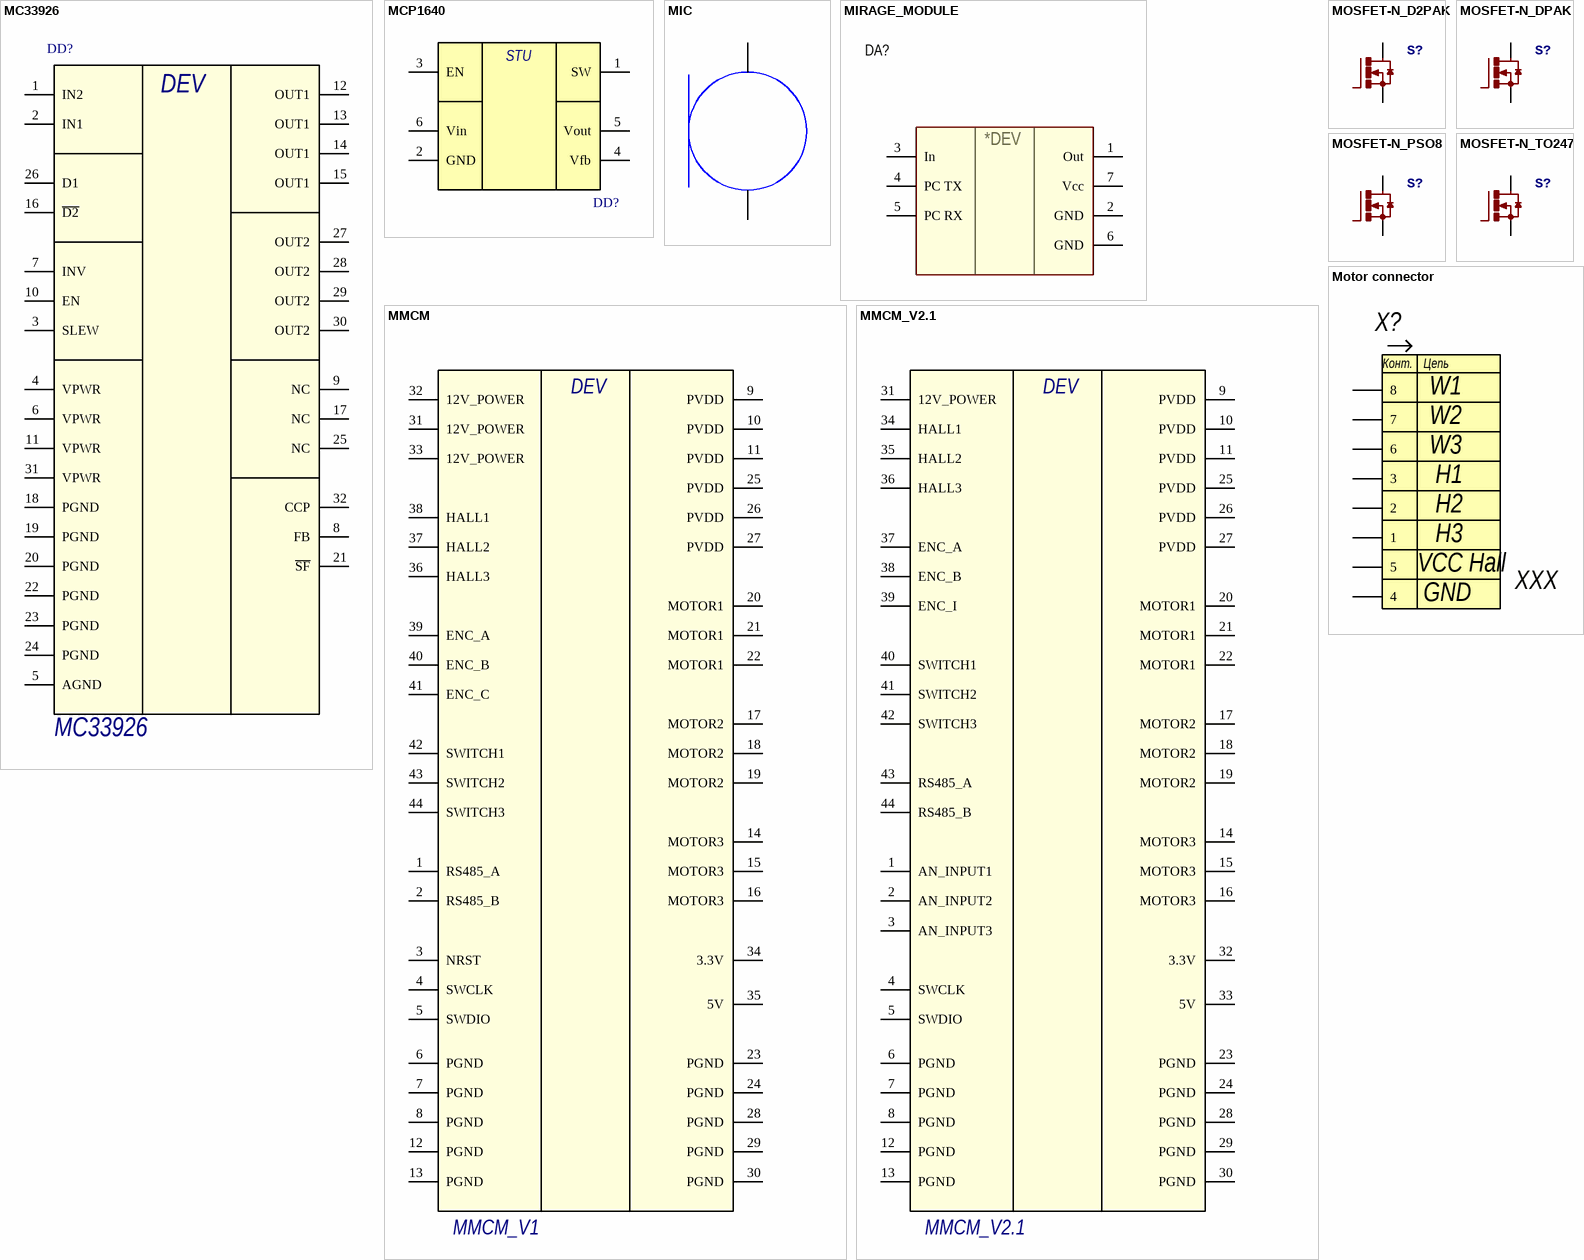
[diagram p14: symbols MC33926 to Motor connector]

## MC33926
designator DD?
Н-мост 5А; Name: MC33926
footprint PQFN32
pins: 1 IN2, 2 IN1, 3 SLEW, 4 VPWR, 5 AGND, 6 VPWR, 7 INV, 8 FB, 9 NC, 10 EN, 11 VPWR, 12 OUT1, 13 OUT1, 14 OUT1, 15 OUT1, 16 ~{D2}, 17 NC, 18 PGND, 19 PGND, 20 PGND, 21 ~{SF}, 22 PGND, 23 PGND, 24 PGND, 25 NC, 26 D1, 27 OUT2, 28 OUT2, 29 OUT2, 30 OUT2, 31 VPWR, 32 CCP
text: DEV

## MCP1640
designator DD?  (value not drawn)
Импульсный DC-DC конвертер
footprint SOT23-6_H
pins: 1 SW, 2 GND, 3 EN, 4 Vfb, 5 Vout, 6 Vin
text: STU

## MIC
designator ?, comment AUDIO_CODEC_CTRL  (value not drawn)
Audio Codec Control; PortComponent: True; Published: 22-Jan-2007; Publisher: Altium Limited; HelpURL: https://wiki.altium.com/display/ADOH/NanoBoard+3000+-+Audio+CODEC
pins: 1, 2

## MIRAGE_MODULE
designator DA?  (value not drawn)
Видео маскиратор/демаскиратор
footprint MIRAGE_MODULE
pins: 1 Out, 2 GND, 3 In, 4 PC TX, 5 PC RX, 6 GND, 7 Vcc
text: *DEV

## MMCM
designator DD?, comment MMCM_V1
Motor Driver; Manufacturer: Tarasoventerprise; PackageVersion: V1; Mounting Technology: Surface Mount; PackageDescription: 44-Pin Flat Pack, Body 40 x 20 mm, Pitch 2 mm; PartNumber: MMCM_V1
footprint MMCM
pins: 1 RS485_A, 2 RS485_B, 3 NRST, 4 SWCLK, 5 SWDIO, 6 PGND, 7 PGND, 8 PGND, 9 PVDD, 10 PVDD, 11 PVDD, 12 PGND, 13 PGND, 14 MOTOR3, 15 MOTOR3, 16 MOTOR3, 17 MOTOR2, 18 MOTOR2, 19 MOTOR2, 20 MOTOR1, 21 MOTOR1, 22 MOTOR1, 23 PGND, 24 PGND, 25 PVDD, 26 PVDD, 27 PVDD, 28 PGND, 29 PGND, 30 PGND, 31 12V_POWER, 32 12V_POWER, 33 12V_POWER, 34 3.3V, 35 5V, 36 HALL3, 37 HALL2, 38 HALL1, 39 ENC_A, 40 ENC_B, 41 ENC_C, 42 SWITCH1, 43 SWITCH2, 44 SWITCH3
text: DEV

## MMCM_V2.1
designator DD?
Motor Driver; Manufacturer: Tarasoventerprise; PackageVersion: V1; Mounting Technology: Surface Mount; PackageDescription: 44-Pin Flat Pack, Body 40 x 20 mm, Pitch 2 mm; PartNumber: MMCM_V2.1
footprint MMCM
pins: 1 AN_INPUT1, 2 AN_INPUT2, 3 AN_INPUT3, 4 SWCLK, 5 SWDIO, 6 PGND, 7 PGND, 8 PGND, 9 PVDD, 10 PVDD, 11 PVDD, 12 PGND, 13 PGND, 14 MOTOR3, 15 MOTOR3, 16 MOTOR3, 17 MOTOR2, 18 MOTOR2, 19 MOTOR2, 20 MOTOR1, 21 MOTOR1, 22 MOTOR1, 23 PGND, 24 PGND, 25 PVDD, 26 PVDD, 27 PVDD, 28 PGND, 29 PGND, 30 PGND, 31 12V_POWER, 32 3.3V, 33 5V, 34 HALL1, 35 HALL2, 36 HALL3, 37 ENC_A, 38 ENC_B, 39 ENC_I, 40 SWITCH1, 41 SWITCH2, 42 SWITCH3, 43 RS485_A, 44 RS485_B
text: DEV

## MOSFET-N_D2PAK
designator S?
footprint D2PAK
pins: 1 G, 2 D, 3 S

## MOSFET-N_DPAK
designator S?
footprint DPAK
pins: 1 G, 3 S, 4 D

## MOSFET-N_PSO8
designator S?
footprint POWERSO8
pins: 1 2 3 S, 4 G, 5 6 7 8 D D

## MOSFET-N_TO247
designator S?
footprint TO247_H_NOHOLE
pins: D, G, S

## Motor connector
designator X?  Name: XXX  (hidden comment: *)
8 pin
footprint 52745-0897
pins: 1, 2, 3, 4, 5, 6, 7, 8
text: Конт.; Цепь; W1; W2; W3; H1; H2; H3; VCC Hall; GND

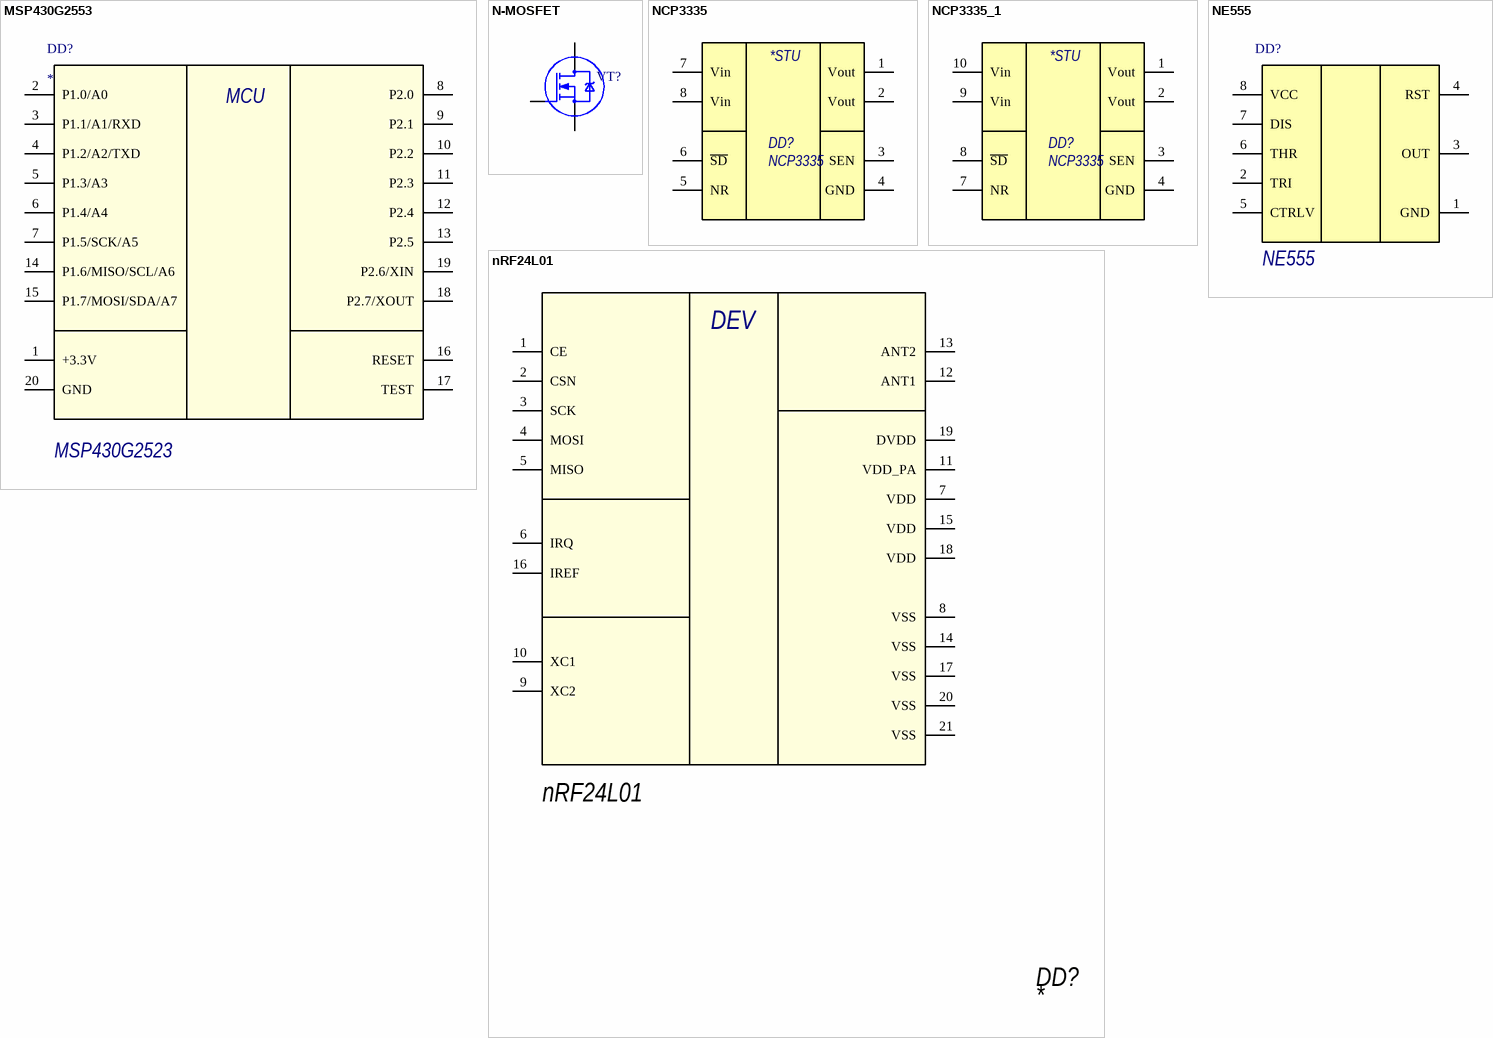
[diagram p15: symbols MSP430G2553 to nRF24L01]

## MSP430G2553
designator DD?  Name: MSP430G2523
микроконтроллер MSP430
pins: 1 +3.3V, 2 P1.0/A0, 3 P1.1/A1/RXD, 4 P1.2/A2/TXD, 5 P1.3/A3, 6 P1.4/A4, 7 P1.5/SCK/A5, 8 P2.0, 9 P2.1, 10 P2.2, 11 P2.3, 12 P2.4, 13 P2.5, 14 P1.6/MISO/SCL/A6, 15 P1.7/MOSI/SDA/A7, 16 RESET, 17 TEST, 18 P2.7/XOUT, 19 P2.6/XIN, 20 GND
text: MCU

## N-MOSFET
designator VT?
N-канальный MOSFET
footprint SOT23-3_A
footprint SOT23-3_H
pins: 1 G, 2 S, 3 D

## NCP3335
designator DD?
Линейный регулятор; Name: NCP3335
footprint Micro8 (TSOP, 8-Leads, Body 3,1x3,1mm (max), Pitch 0,65mm, IPC Medium Density)
pins: 1 Vout, 2 Vout, 3 SEN, 4 GND, 5 NR, 6 ~{SD}, 7 Vin, 8 Vin
text: *STU

## NCP3335_1
designator DD?, comment NCP3335
Линейный регулятор; Name: NCP3335
footprint DFN-10LD (10 LEAD DUAL FLAT PACKAGE)
pins: 1 Vout, 2 Vout, 3 SEN, 4 GND, 7 NR, 8 ~{SD}, 9 Vin, 10 Vin
text: *STU

## NE555
designator DD?
ПЗУ 1K SPI; Name: NE555
footprint SO8_A
footprint SO8_H
footprint SO8_H
footprint SO8_A
pins: 1 GND, 2 TRI, 3 OUT, 4 RST, 5 CTRLV, 6 THR, 7 DIS, 8 VCC

## nRF24L01
designator DD?  Name: nRF24L01
footprint QFN20_M (QFN, 20-Leads, Body 4x4mm, Pitch 0.5mm, Thermal Pad 2.3x2.3mm, IPC Low Density)
pins: 1 CE, 2 CSN, 3 SCK, 4 MOSI, 5 MISO, 6 IRQ, 7 VDD, 8 VSS, 9 XC2, 10 XC1, 11 VDD_PA, 12 ANT1, 13 ANT2, 14 VSS, 15 VDD, 16 IREF, 17 VSS, 18 VDD, 19 DVDD, 20 VSS, 21 VSS
text: DEV

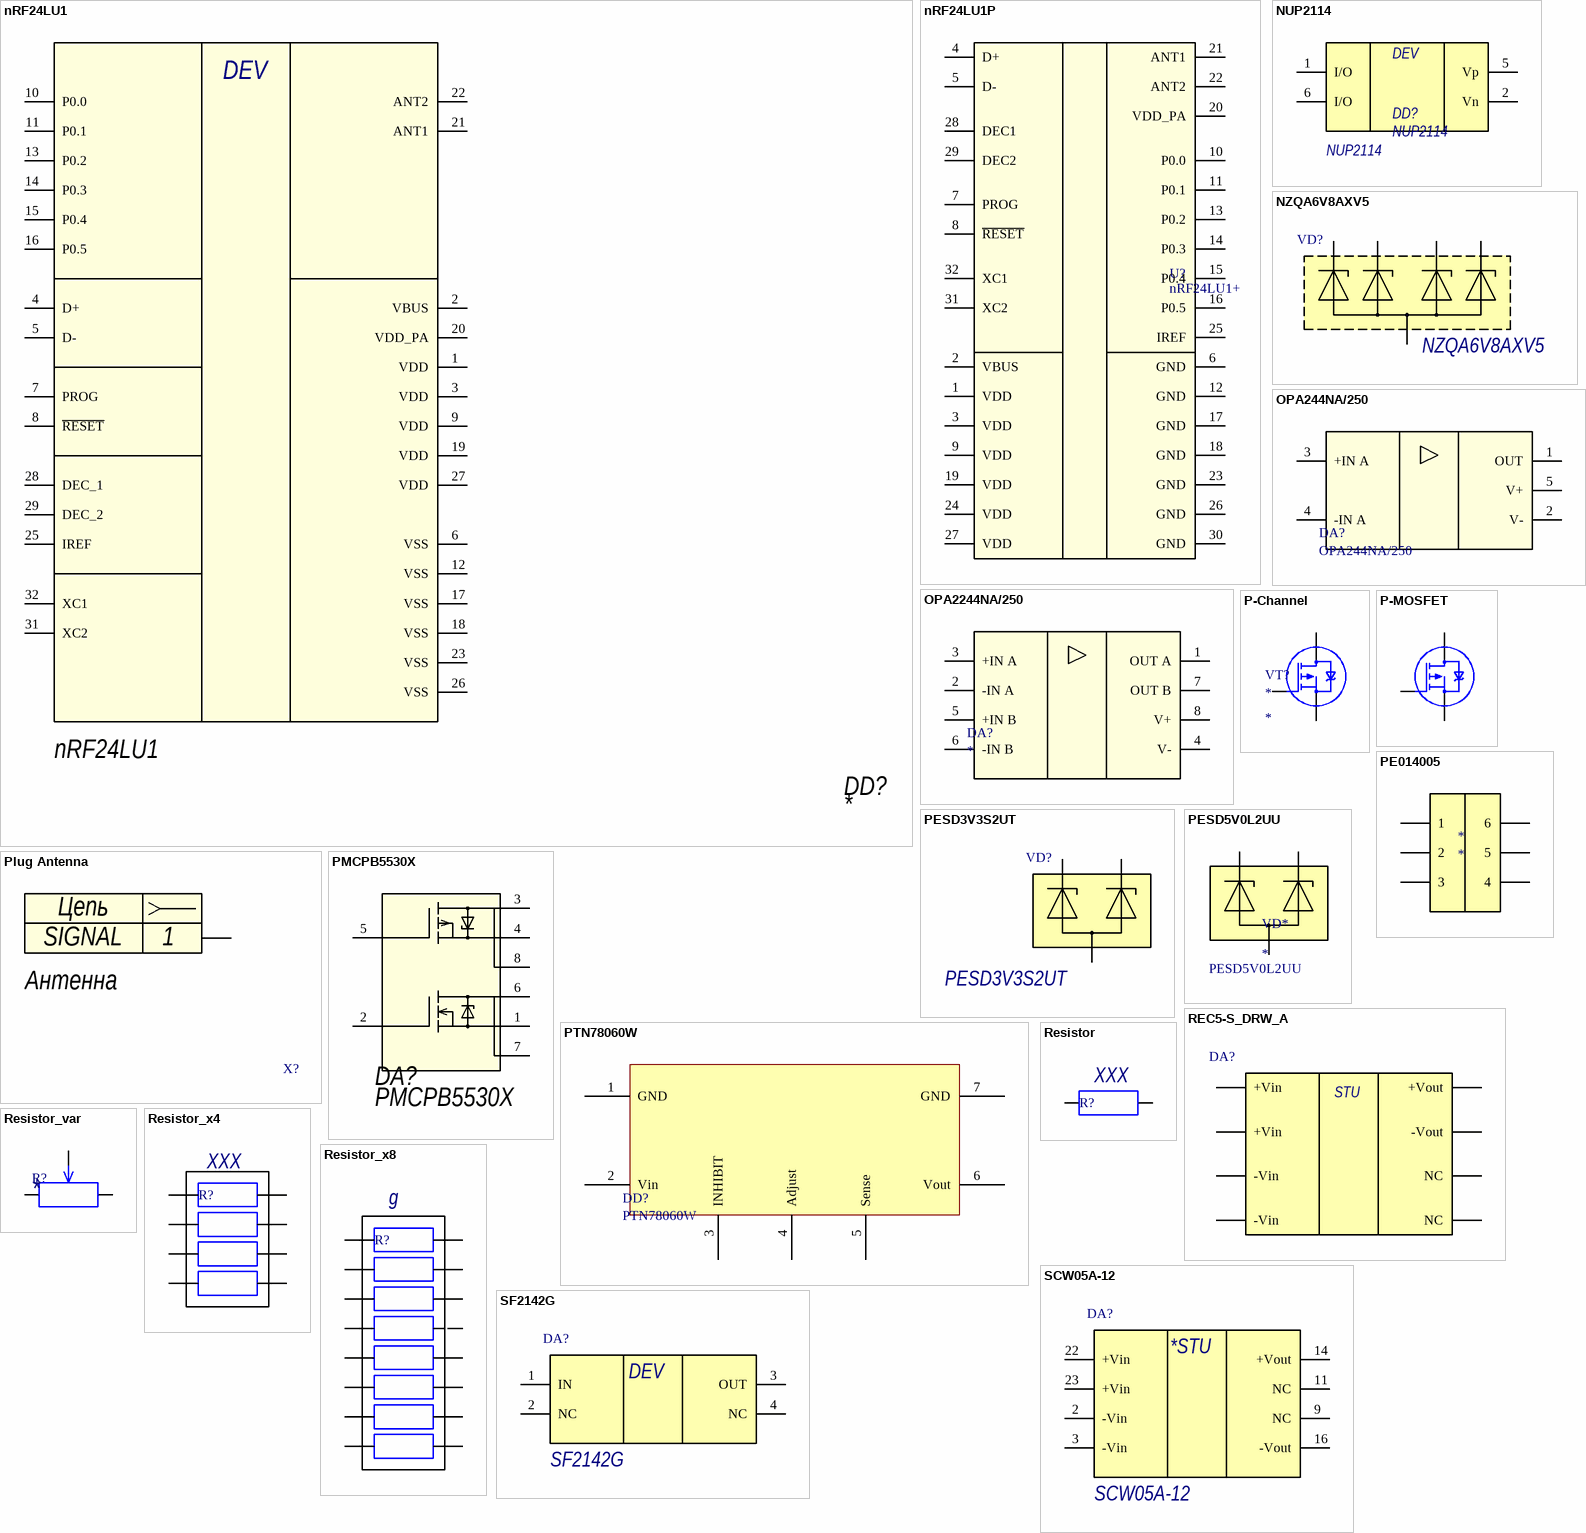
[diagram p16: symbols nRF24LU1 to SF2142G]

## nRF24LU1
designator DD?  Name: nRF24LU1
Приемопередатчик
footprint QFN32L/5x5
pins: 1 VDD, 2 VBUS, 3 VDD, 4 D+, 5 D-, 6 VSS, 7 PROG, 8 ~{RESET}, 9 VDD, 10 P0.0, 11 P0.1, 12 VSS, 13 P0.2, 14 P0.3, 15 P0.4, 16 P0.5, 17 VSS, 18 VSS, 19 VDD, 20 VDD_PA, 21 ANT1, 22 ANT2, 23 VSS, 25 IREF, 26 VSS, 27 VDD, 28 DEC_1, 29 DEC_2, 31 XC2, 32 XC1
text: DEV

## nRF24LU1P
designator U?, comment nRF24LU1+
2.4GHz Transceiver with USB
footprint QFN32L/5x5
pins: 1 VDD (power) "Power supply (+3.3V DC) for de-coupling purposes", 2 VBUS (power) "USB power connection", 3 VDD (power) "Power supply (+3.3V DC) for de-coupling purposes", 4 D+ (power) "USB data +", 5 D- (power) "USB data -", 6 GND (power) "Ground (0V)", 7 PROG (power) "Reserved for programming the flash", 8 ~{RESET} (power) "Reset for microcontroller, active low", 9 VDD (power) "Power supply (+3.3V DC) for de-coupling purposes", 10 P0.0 (power) "General purpose data Port 0, bit 0", 11 P0.1 (power) "General purpose data Port 0, bit 1", 12 GND (power) "Ground (0V)", 13 P0.2 (power) "General purpose data Port 0, bit 2", 14 P0.3 (power) "General purpose data Port 0, bit 3", 15 P0.4 (power) "General purpose data Port 0, bit 4", 16 P0.5 (power) "General purpose data Port 0, bit 5", 17 GND (power) "Ground (0V)", 18 GND (power), 19 VDD (power) "Power supply (+3.3V DC) for de-coupling purposes", 20 VDD_PA (power) "Power Supply (+1.8V) to Power Amplifier", 21 ANT1 (power) "Antenna connection 1", 22 ANT2 (power) "Antenna connection 2", 23 GND (power) "Ground (0V)", 24 VDD (power) "Power supply (+3.3V DC) for de-coupling purposes", 25 IREF (power) "Reference current", 26 GND (power) "Ground (0V)", 27 VDD (power) "Power supply (+3.3V DC) for de-coupling purposes", 28 DEC1 (power) "Positive Digital Supply output for de-coupling purposes", 29 DEC2 (power) "Positive Digital Supply output for de-coupling purposes", 30 GND (power) "Ground (0V)", 31 XC2 (power) "Crystal connection 2", 32 XC1 (power) "Crystal connection 1"

## NUP2114
designator DD?
Супрессор; Name: NUP2114
footprint TSOP-6 (TSOP, 6-Leads, Body 3,1x1,7mm (max), Pitch 0,95mm, IPC Medium Density)
pins: 1 I/O, 2 Vn, 5 Vp, 6 I/O
text: DEV

## NZQA6V8AXV5
designator VD?
Сборка TVS-диодов; Name: NZQA6V8AXV5
footprint SOT553-5_A
footprint SOT553-5_H
pins: 1, 2, 3, 4, 5

## OPA244NA/250
designator DA?
ОУ 2,2В - 36В, 50мкА, 430кГц; Name: OPA244NA/250
footprint SOT23-5_H
pins: 1 OUT, 2 V-, 3 +IN A, 4 -IN A, 5 V+

## OPA2244NA/250
designator DA?
footprint MSOP-8LD
footprint SO8_A
pins: 1 OUT A, 2 -IN A, 3 +IN A, 4 V-, 5 +IN B, 6 -IN B, 7 OUT B, 8 V+

## P-Channel
designator VT?
Name: *
footprint PQFN_3.3X3.3_H; pin to pad 1>4 2>1 3>5
pins: 1 G, 2 S, 3 D

## P-MOSFET
designator ?, comment AUDIO_CODEC_CTRL  (value not drawn)
Audio Codec Control; PortComponent: True; Published: 22-Jan-2007; Publisher: Altium Limited; HelpURL: https://wiki.altium.com/display/ADOH/NanoBoard+3000+-+Audio+CODEC
pins: 1 G, 2 S, 3 D

## PE014005
designator *
pins: 1, 2, 3, 4, 5, 6

## PESD3V3S2UT
designator VD?
Сборка TVS-диодов; Name: PESD3V3S2UT
footprint SOT23-3_H
footprint SOT23-3_A
pins: 1, 2, 3

## PESD5V0L2UU
designator VD*  Name: PESD5V0L2UU
Сборка TVS-диодов
footprint SOT323
pins: 1, 2, 3

## Plug Antenna
designator X?  Name: Антенна  (hidden comment: *)
footprint Plug
pins: 1
text: Цепь; SIGNAL

## PMCPB5530X
designator DA?  Name: PMCPB5530X  (hidden comment: *)
N & P MOSFET
footprint SOT1118
pins: 1, 2, 3, 4, 5, 6, 7, 8

## PTN78060W
designator DD?
Name: PTN78060W
footprint PTN7860
pins: 1 GND, 2 Vin, 3 INHIBIT, 4 Adjust, 5 Sense, 6 Vout, 7 GND

## REC5-S_DRW_A
designator DA?
=Name: REC5-S_DRW
footprint SCW05
pins: 2 -Vin (power), 3 -Vin (power), 9 NC, 11 NC, 14 +Vout (power), 16 -Vout (power), 22 +Vin (power), 23 +Vin (power)
text: STU

## Resistor
designator R?, comment XXX
Резистор; Value: XXX
footprint R0402_A
footprint R0402_H
footprint R0603_H
footprint R0805_A
footprint R0805_H
footprint R1206_A
footprint R1206_H
footprint R1210_A
footprint R1210_H
footprint R2010_A
footprint R2010_H
footprint R2512_A
footprint R2512_H
footprint R0603_A
pins: 1, 2

## Resistor_var
designator R?
Value: *
footprint Res_trimmer
pins: 1, 2, 3

## Resistor_x4
designator R?, comment XXX
Резистор; Value: XXX
footprint R0402_A
footprint R0402_H
footprint R0603_H
footprint R0805_A
footprint R0805_H
footprint R1206_A
footprint R1206_H
footprint R1210_A
footprint R1210_H
footprint R2010_A
footprint R2010_H
footprint R2512_A
footprint R2512_H
footprint R0603_A
footprint R0603x4
pins: 1, 2, 3, 4, 5, 6, 7, 8

## Resistor_x8
designator R?, comment g
Резистор; Value: g
footprint R0402_A
footprint R0402_H
footprint R0603_H
footprint R0805_A
footprint R0805_H
footprint R1206_A
footprint R1206_H
footprint R1210_A
footprint R1210_H
footprint R2010_A
footprint R2010_H
footprint R2512_A
footprint R2512_H
footprint R0603_A
footprint R0603x4
footprint R0603x8
pins: 1, 2, 3, 4, 5, 6, 7, 8, 9, 10, 11, 12, 13, 14, 15, 16

## SCW05A-12
designator DA?
DC\DC; Name: SCW05A-12
footprint SCW05
pins: 2 -Vin, 3 -Vin, 9 NC, 11 NC, 14 +Vout, 16 -Vout, 22 +Vin, 23 +Vin
text: *STU

## SF2142G
designator DA?
867.5 MHz SAW Filter; Name: SF2142G
footprint SM2520-4_A
pins: 1 IN, 2 NC, 3 OUT, 4 NC
text: DEV

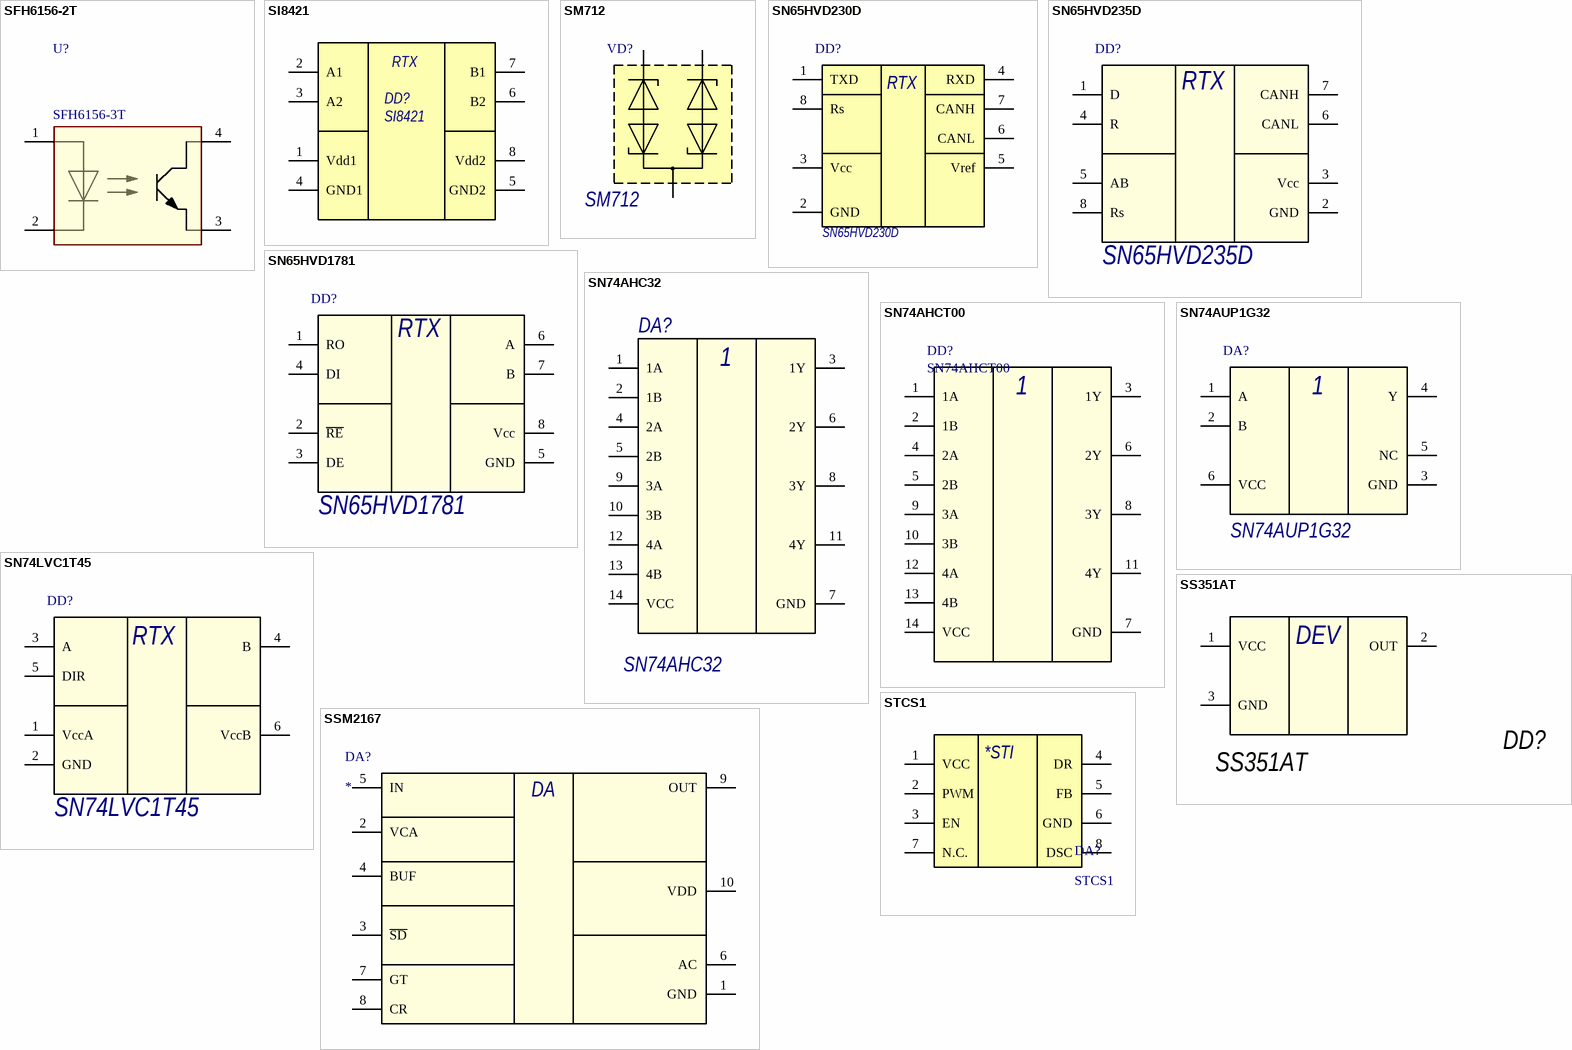
[diagram p17: symbols SFH6156-2T to STCS1]

## SFH6156-2T
designator U?, comment SFH6156-3T
4-Pin Phototransistor Optocoupler; Published: 24-Mar-1999; LatestRevisionDate: 04-Mar-2005; LatestRevisionNote: Sch pins 3 & 4 Swapped.; DatasheetVersion: Nov-2003; PackageReference: DIP-4; Publisher: Altium Limited
footprint DIP-4 (DIP; 4 Leads; Row Spacing 7.62 mm; Pitch 2.54 mm)
pins: 1, 2, 3, 4

## SI8421
designator DD?
Name: SI8421
footprint SOIC127P600X175-8N (SOIC, 8-Leads, Body 5,0x4,0mm (max), Pitch 1,27mm, IPC Medium Density)
pins: 1 Vdd1, 2 A1, 3 A2, 4 GND1, 5 GND2, 6 B2, 7 B1, 8 Vdd2
text: RTX

## SM712
designator VD?
Сборка TVS-диодов; Name: SM712
footprint SOT23-3_A
footprint SOT23-3_H
pins: 1, 2, 3

## SN65HVD230D
designator DD?
Приемопередатчик CAN; Name: SN65HVD230D
footprint SO8_A
footprint SO8_H
pins: 1 TXD, 2 GND, 3 Vcc, 4 RXD, 5 Vref, 6 CANL, 7 CANH, 8 Rs
text: RTX

## SN65HVD235D
designator DD?
Приемопередатчик CAN; Name: SN65HVD235D
footprint SO8_A
footprint SO8_H
pins: 1 D, 2 GND, 3 Vcc, 4 R, 5 AB, 6 CANL, 7 CANH, 8 Rs
text: RTX

## SN65HVD1781
designator DD?
Приемопередатчик RS485; Name: SN65HVD1781
footprint SO8_A
footprint SO8_H
pins: 1 RO, 2 ~{RE}, 3 DE, 4 DI, 5 GND, 6 A, 7 B, 8 Vcc
text: RTX

## SN74AHC32
designator DA?
QUADRUPLE 2-INPUT POSITIVE-OR GATES; Value: Value; Name: SN74AHC32
footprint S-PVQFN-N14_H
footprint S-PVQFN-N14_A
pins: 1 1A, 2 1B, 3 1Y, 4 2A, 5 2B, 6 2Y, 7 GND, 8 3Y, 9 3A, 10 3B, 11 4Y, 12 4A, 13 4B, 14 VCC

## SN74AHCT00
designator DD?
Name: SN74AHCT00
pins: 1 1A, 2 1B, 3 1Y, 4 2A, 5 2B, 6 2Y, 7 GND, 8 3Y, 9 3A, 10 3B, 11 4Y, 12 4A, 13 4B, 14 VCC

## SN74AUP1G32
designator DA?
Name: SN74AUP1G32
footprint 6SON (PSON, 6-Leads, Body 3x4 mm, Pitch 0.8mm, NSC Recommended)
pins: 1 A, 2 B, 3 GND, 4 Y, 5 NC, 6 VCC

## SN74LVC1T45
designator DD?
Преобразователь уровней; Name: SN74LVC1T45
pins: 1 VccA, 2 GND, 3 A, 4 B, 5 DIR, 6 VccB
text: RTX

## SS351AT
designator DD?  (value not drawn)
SS351AT; Name: SS351AT
footprint SOT23-3_A
footprint SOT23-3_H
footprint TO-92
pins: 1 VCC, 2 OUT, 3 GND
text: DEV

## SSM2167
designator DA?
Name: *
footprint TSSO3x5-G10 (Shrink Small Outline; 10 Leads; Body Width 3 mm; Pitch 0.5 mm)
pins: 1 GND, 2 VCA, 3 ~{SD}, 4 BUF, 5 IN, 6 AC, 7 GT, 8 CR, 9 OUT, 10 VDD
text: DA

## STCS1
designator DA?
Драйвер светодиодов
footprint SO8_H
pins: 1 VCC, 2 PWM, 3 EN, 4 DR, 5 FB, 6 GND, 7 N.C., 8 DSC
text: *STI

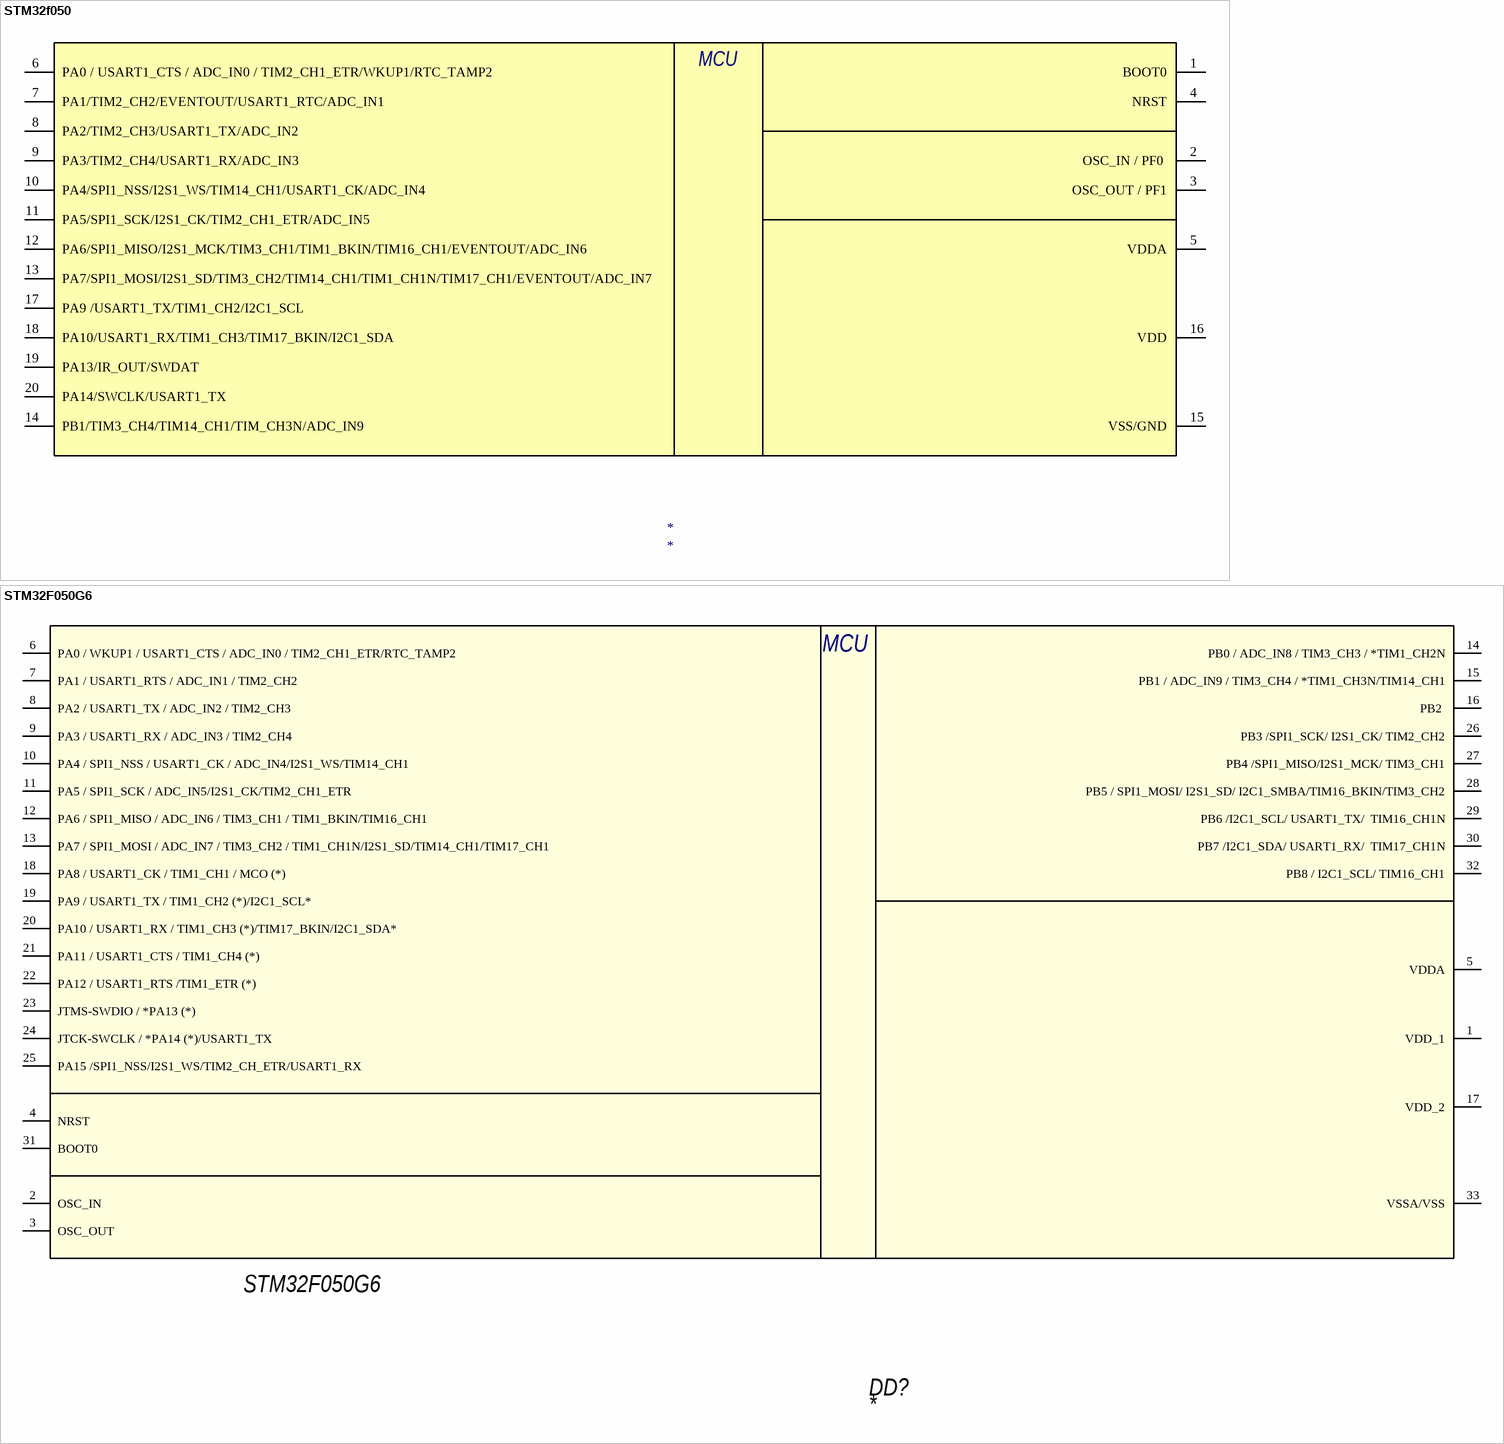
[diagram p18: symbols STM32f050 to STM32F050G6]